# Altium integrated library SparkFun-Connectors.Library.IntLib: 425 symbols (part 11 of 12)
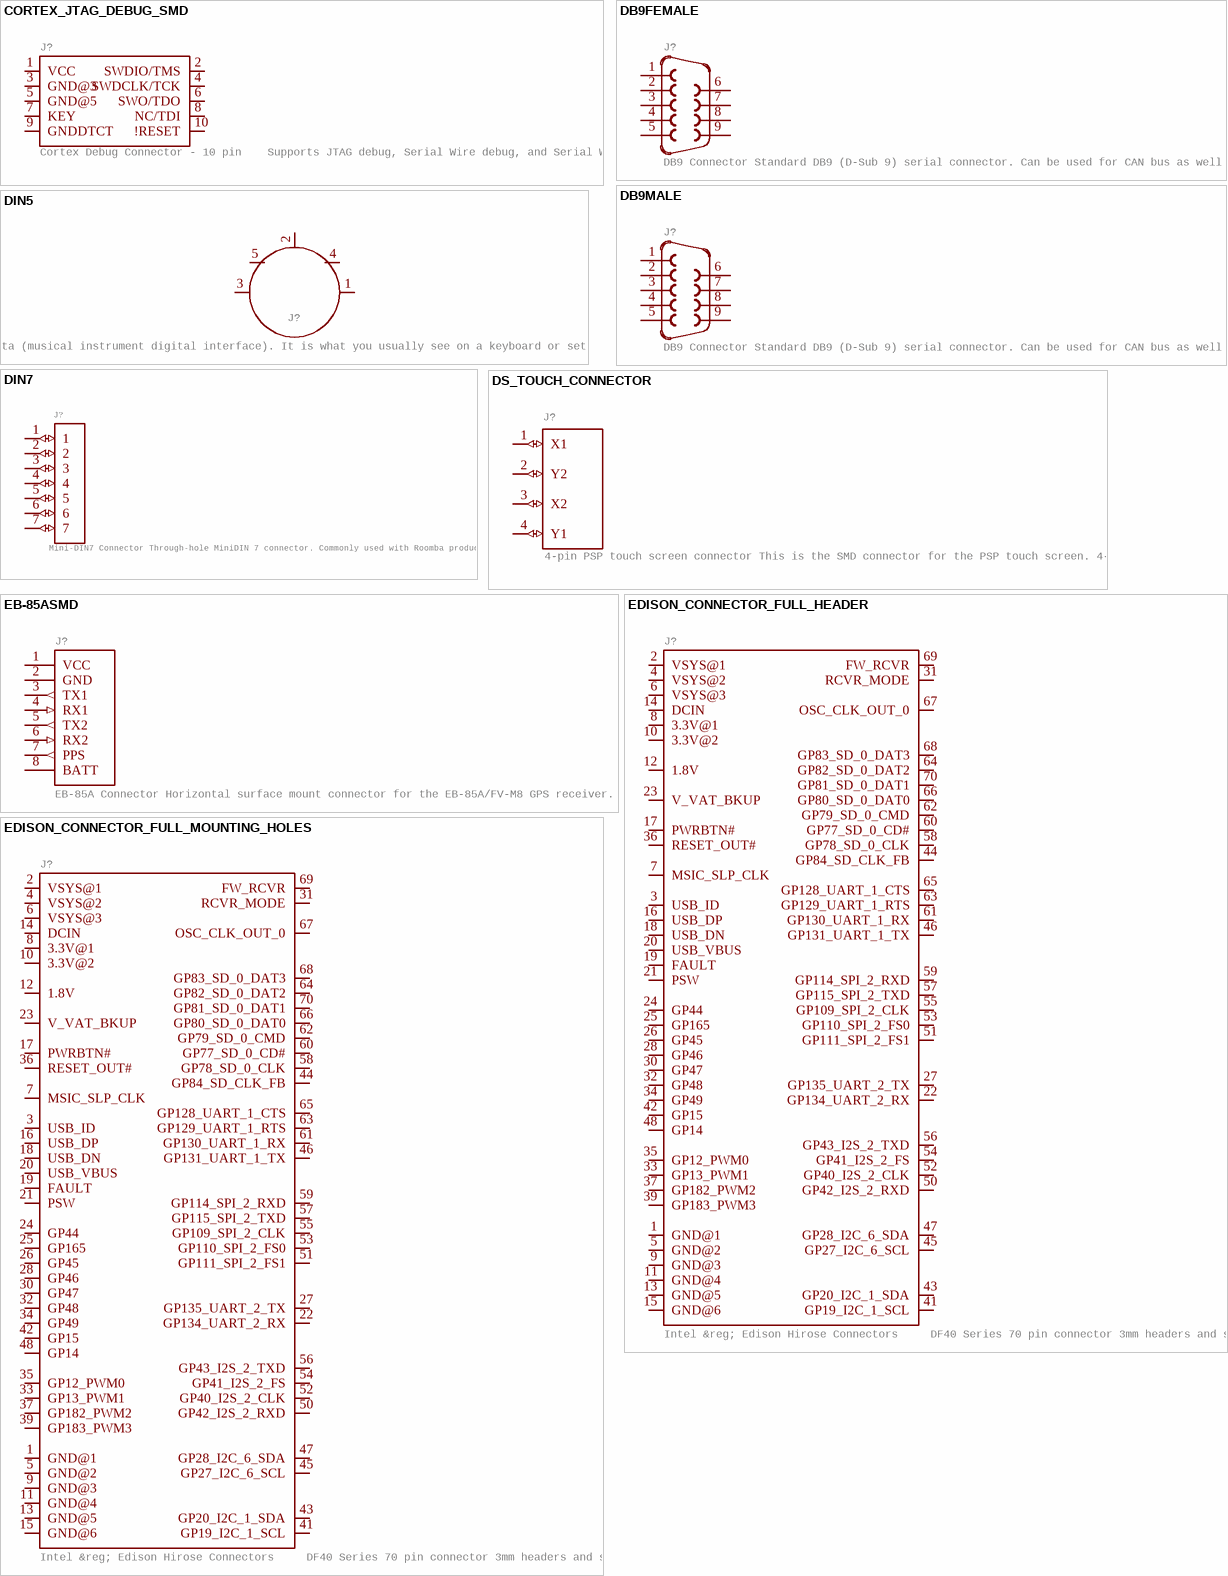
[diagram p29: symbols CORTEX_JTAG_DEBUG_SMD to EDISON_CONNECTOR_FULL_MOUNTING_HOLES]

## EDISON_CONNECTOR_FULL_MOUNTING_HOLES
designator J?, comment Intel &reg; Edison Hirose Connectors     DF40 Series 70 pin connector 3mm headers and sockets used on the SparkFun Edison Blocks.    Edison Daughter package includes layout for the Edison module itself, including mounting holes and antenna area marked.   SparkFun Products: SparkFun ADC Edison Block  SparkFun Power Edison Block  SparkFun Base Edison Block  SparkFun Dual H-Bridge Edison Block  SparkFun microSD Edison Block
GateName_1: G$1; SymbolName_1: EDISON_CONNECTOR; DeviceName: _MOUNTING_HOLES; DeviceSetName: EDISON_CONNECTOR_FULL; LibraryName: SparkFun-Connectors; Package: EDISON_DAUGHTER
footprint EDISON_DAUGHTER
pins: 1 GND@1 (io), 2 VSYS@1 (io), 3 USB_ID (io), 4 VSYS@2 (io), 5 GND@2 (io), 6 VSYS@3 (io), 7 MSIC_SLP_CLK (io), 8 3.3V@1 (io), 9 GND@3 (io), 10 3.3V@2 (io), 11 GND@4 (io), 12 1.8V (io), 13 GND@5 (io), 14 DCIN (io), 15 GND@6 (io), 16 USB_DP (io), 17 PWRBTN# (io), 18 USB_DN (io), 19 FAULT (io), 20 USB_VBUS (io), 21 PSW (io), 22 GP134_UART_2_RX (io), 23 V_VAT_BKUP (io), 24 GP44 (io), 25 GP165 (io), 26 GP45 (io), 27 GP135_UART_2_TX (io), 28 GP46 (io), 30 GP47 (io), 31 RCVR_MODE (io), 32 GP48 (io), 33 GP13_PWM1 (io), 34 GP49 (io), 35 GP12_PWM0 (io), 36 RESET_OUT# (io), 37 GP182_PWM2 (io), 39 GP183_PWM3 (io), 41 GP19_I2C_1_SCL (io), 42 GP15 (io), 43 GP20_I2C_1_SDA (io), 44 GP84_SD_CLK_FB (io), 45 GP27_I2C_6_SCL (io), 46 GP131_UART_1_TX (io), 47 GP28_I2C_6_SDA (io), 48 GP14 (io), 50 GP42_I2S_2_RXD (io), 51 GP111_SPI_2_FS1 (io), 52 GP40_I2S_2_CLK (io), 53 GP110_SPI_2_FS0 (io), 54 GP41_I2S_2_FS (io), 55 GP109_SPI_2_CLK (io), 56 GP43_I2S_2_TXD (io), 57 GP115_SPI_2_TXD (io), 58 GP78_SD_0_CLK (io), 59 GP114_SPI_2_RXD (io), 60 GP77_SD_0_CD# (io), 61 GP130_UART_1_RX (io), 62 GP79_SD_0_CMD (io), 63 GP129_UART_1_RTS (io), 64 GP82_SD_0_DAT2 (io), 65 GP128_UART_1_CTS (io), 66 GP80_SD_0_DAT0 (io), 67 OSC_CLK_OUT_0 (io), 68 GP83_SD_0_DAT3 (io), 69 FW_RCVR (io), 70 GP81_SD_0_DAT1 (io)

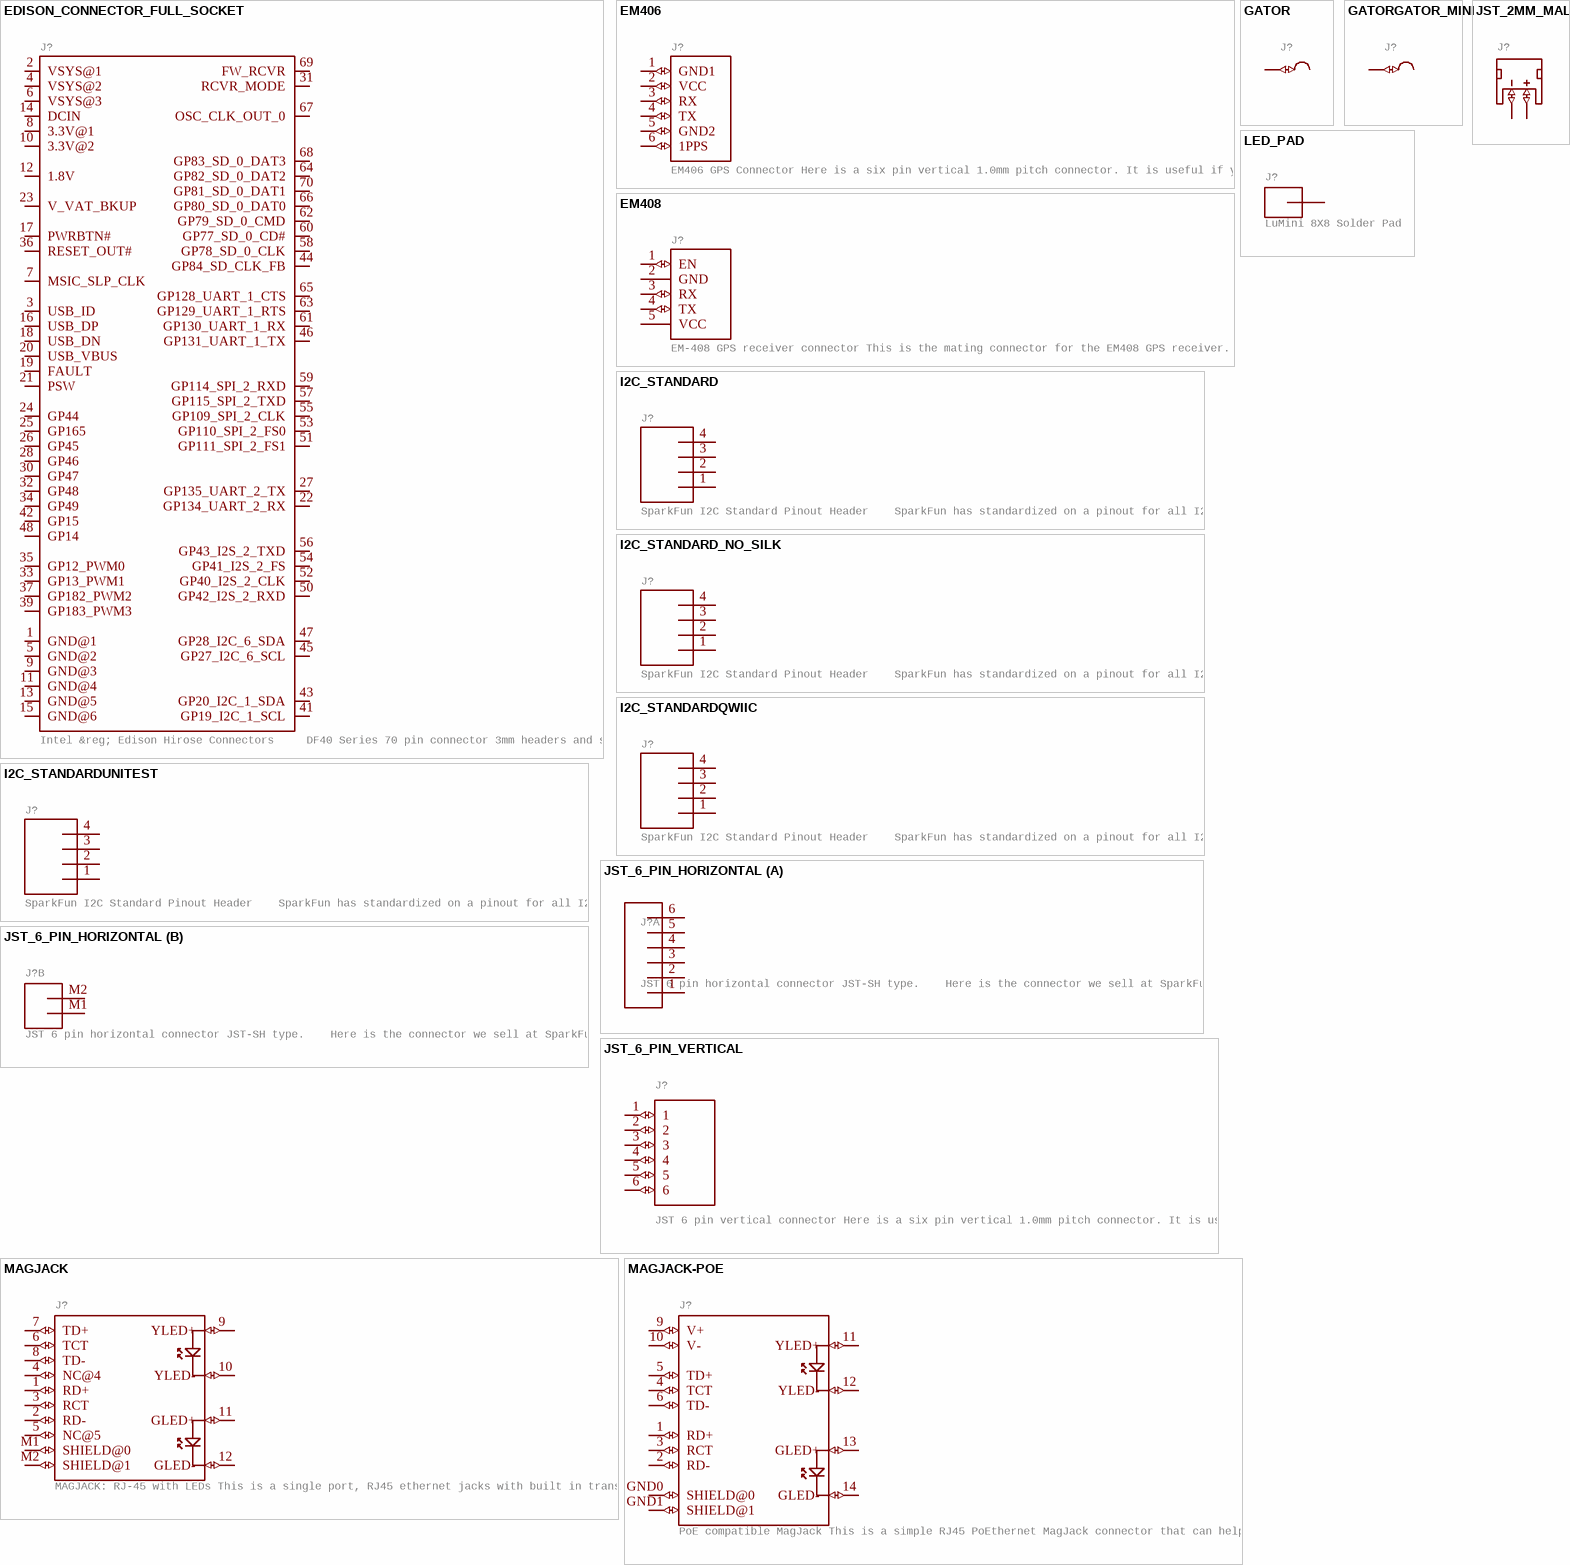
[diagram p14: symbols EDISON_CONNECTOR_FULL_SOCKET to MAGJACK-POE]

## EDISON_CONNECTOR_FULL_SOCKET
designator J?, comment Intel &reg; Edison Hirose Connectors     DF40 Series 70 pin connector 3mm headers and sockets used on the SparkFun Edison Blocks.    Edison Daughter package includes layout for the Edison module itself, including mounting holes and antenna area marked.   SparkFun Products: SparkFun ADC Edison Block  SparkFun Power Edison Block  SparkFun Base Edison Block  SparkFun Dual H-Bridge Edison Block  SparkFun microSD Edison Block
GateName_1: G$1; SymbolName_1: EDISON_CONNECTOR; DeviceName: _SOCKET; DeviceSetName: EDISON_CONNECTOR_FULL; PROD_ID: CONN-12247; LibraryName: SparkFun-Connectors; Package: DF40-XC-(X.X)-70DS-0.4V(51)
footprint DF40-XC-(X.X)-70DS-0.4V(51)
pins: 1 GND@1 (io), 2 VSYS@1 (io), 3 USB_ID (io), 4 VSYS@2 (io), 5 GND@2 (io), 6 VSYS@3 (io), 7 MSIC_SLP_CLK (io), 8 3.3V@1 (io), 9 GND@3 (io), 10 3.3V@2 (io), 11 GND@4 (io), 12 1.8V (io), 13 GND@5 (io), 14 DCIN (io), 15 GND@6 (io), 16 USB_DP (io), 17 PWRBTN# (io), 18 USB_DN (io), 19 FAULT (io), 20 USB_VBUS (io), 21 PSW (io), 22 GP134_UART_2_RX (io), 23 V_VAT_BKUP (io), 24 GP44 (io), 25 GP165 (io), 26 GP45 (io), 27 GP135_UART_2_TX (io), 28 GP46 (io), 30 GP47 (io), 31 RCVR_MODE (io), 32 GP48 (io), 33 GP13_PWM1 (io), 34 GP49 (io), 35 GP12_PWM0 (io), 36 RESET_OUT# (io), 37 GP182_PWM2 (io), 39 GP183_PWM3 (io), 41 GP19_I2C_1_SCL (io), 42 GP15 (io), 43 GP20_I2C_1_SDA (io), 44 GP84_SD_CLK_FB (io), 45 GP27_I2C_6_SCL (io), 46 GP131_UART_1_TX (io), 47 GP28_I2C_6_SDA (io), 48 GP14 (io), 50 GP42_I2S_2_RXD (io), 51 GP111_SPI_2_FS1 (io), 52 GP40_I2S_2_CLK (io), 53 GP110_SPI_2_FS0 (io), 54 GP41_I2S_2_FS (io), 55 GP109_SPI_2_CLK (io), 56 GP43_I2S_2_TXD (io), 57 GP115_SPI_2_TXD (io), 58 GP78_SD_0_CLK (io), 59 GP114_SPI_2_RXD (io), 60 GP77_SD_0_CD# (io), 61 GP130_UART_1_RX (io), 62 GP79_SD_0_CMD (io), 63 GP129_UART_1_RTS (io), 64 GP82_SD_0_DAT2 (io), 65 GP128_UART_1_CTS (io), 66 GP80_SD_0_DAT0 (io), 67 OSC_CLK_OUT_0 (io), 68 GP83_SD_0_DAT3 (io), 69 FW_RCVR (io), 70 GP81_SD_0_DAT1 (io)

## EM406
designator J?, comment EM406 GPS Connector Here is a six pin vertical 1.0mm pitch connector. It is useful if you need something very tiny as a connection. These are not the standard JST type connectors we use on most of our boards, but are actually the much smaller JST-SH type.    Here is the connector we sell at SparkFun: JST SH Vertical 6-Pin Connector - SMD (GPS-00579)  Datasheet      It was used on these SparkFun products: SparkFun GPS Breakout (BOB-11818)  SparkFun Weather Shield (DEV-12081)  And many, many other GPS related products.
GateName_1: G$1; PROD_ID: CONN-08249; SymbolName_1: EM406; LibraryName: SparkFun-Connectors; DeviceSetName: EM406; Package: 1X06-1MM; SF_ID: GPS-00579
footprint 1X06-1MM
pins: 1 GND1 (io), 2 VCC (io), 3 RX (io), 4 TX (io), 5 GND2 (io), 6 1PPS (io)

## EM408
designator J?, comment EM-408 GPS receiver connector This is the mating connector for the EM408 GPS receiver. The EM408 connects to the board via a cable. Note, this connector footprint does not include the outline of the receiver.    Here is the connector we sell at SparkFun: Connector Vertical SMD for EM408 (GPS-08288)  Datasheet      It was also used on this SparkFun product:  This connector is not on any currently live products, however it has been used on previously reitred products, so the package is proven.       Special note: You should include the "EM408_Outline" device in your schematic if you are to use the EM408 in your design.
GateName_1: G$1; PROD_ID: CONN-08528; SymbolName_1: EM408; LibraryName: SparkFun-Connectors; DeviceSetName: EM408; Package: 1X05_1MM; SF_ID: GPS-08288
footprint 1X05_1MM
pins: 1 EN (io), 2 GND (power), 3 RX (io), 4 TX (io), 5 VCC (power)

## GATOR
designator J?
GateName_1: G$1; SymbolName_1: MICRO_BIT_GATOR_CLIP; DeviceSetName: GATOR; LibraryName: SparkFun-Connectors; Package: GATOR
footprint GATOR
pins: P$1,2 P$1 (io)

## GATORGATOR_MINI
designator J?
GateName_1: G$1; SymbolName_1: MICRO_BIT_GATOR_CLIP; DeviceName: GATOR_MINI; DeviceSetName: GATOR; LibraryName: SparkFun-Connectors; Package: GATOR_MINI
footprint GATOR_MINI
pins: P$2 P$1 (io)

## I2C_STANDARD
designator J?, comment SparkFun I2C Standard Pinout Header    SparkFun has standardized on a pinout for all I2C based sensor breakouts.  This pinout allows I2C boards to be plugged directly into the headers on Arduino Uno compatible boards, and to be daisy chained easily.   Example SparkFun Products: SparkFun Atmospheric Sensor Breakout - BME280  SparkFun Altitude/Pressure Sensor Breakout - MPL3115A2  SparkFun TOF Range Finder Sensor - VL6180
GateName_1: G$1; SymbolName_1: I2C_STANDARD; LibraryName: SparkFun-Connectors; DeviceSetName: I2C_STANDARD; Package: 1X04
footprint 1X04
pins: 1 (power), 2 (power), 3, 4

## I2C_STANDARD_NO_SILK
designator J?, comment SparkFun I2C Standard Pinout Header    SparkFun has standardized on a pinout for all I2C based sensor breakouts.  This pinout allows I2C boards to be plugged directly into the headers on Arduino Uno compatible boards, and to be daisy chained easily.   Example SparkFun Products: SparkFun Atmospheric Sensor Breakout - BME280  SparkFun Altitude/Pressure Sensor Breakout - MPL3115A2  SparkFun TOF Range Finder Sensor - VL6180
GateName_1: G$1; SymbolName_1: I2C_STANDARD; DeviceName: _NO_SILK; LibraryName: SparkFun-Connectors; DeviceSetName: I2C_STANDARD; Package: 1X04_NO_SILK
footprint 1X04_NO_SILK
pins: 1 (power), 2 (power), 3, 4

## I2C_STANDARDQWIIC
designator J?, comment SparkFun I2C Standard Pinout Header    SparkFun has standardized on a pinout for all I2C based sensor breakouts.  This pinout allows I2C boards to be plugged directly into the headers on Arduino Uno compatible boards, and to be daisy chained easily.   Example SparkFun Products: SparkFun Atmospheric Sensor Breakout - BME280  SparkFun Altitude/Pressure Sensor Breakout - MPL3115A2  SparkFun TOF Range Finder Sensor - VL6180
GateName_1: G$1; SymbolName_1: I2C_STANDARD; DeviceName: QWIIC; PROD_ID: CONN-13694; LibraryName: SparkFun-Connectors; DeviceSetName: I2C_STANDARD; Package: JST04_1MM_RA
footprint JST04_1MM_RA
pins: 1 (power), 2 (power), 3, 4

## I2C_STANDARDUNITEST
designator J?, comment SparkFun I2C Standard Pinout Header    SparkFun has standardized on a pinout for all I2C based sensor breakouts.  This pinout allows I2C boards to be plugged directly into the headers on Arduino Uno compatible boards, and to be daisy chained easily.   Example SparkFun Products: SparkFun Atmospheric Sensor Breakout - BME280  SparkFun Altitude/Pressure Sensor Breakout - MPL3115A2  SparkFun TOF Range Finder Sensor - VL6180
GateName_1: G$1; SymbolName_1: I2C_STANDARD; DeviceName: UNITEST; LibraryName: SparkFun-Connectors; DeviceSetName: I2C_STANDARD; Package: 1X04_UNITEST
footprint 1X04_UNITEST
pins: 1 (power), 2 (power), 3, 4

## JST_2MM_MALE
designator J?, comment JST 2MM MALE RA CONNECTOR Two pin, compact surface mount connector. Commonly used as a battery input connection point. We really like the solid locking feeling and high current rating on these small connectors. We use these all the time as battery connectors. Mates to single-cell LiPo batteries.    Here is the connector we sell at SparkFun: JST Right Angle Connector - White (PRT-08612)  Datasheet      It was used on these SparkFun products: SparkFun MOSFET Power Controller (PRT-11214)  SparkFun Battery Babysitter - LiPo Battery Manager (PRT-13777)  And many, many others that required a lipo battery connection.  (value not drawn)
GateName_1: G$1; SymbolName_1: JST_2MM_MALE; PROD_ID: CONN-11443; LibraryName: SparkFun-Connectors; DeviceSetName: JST_2MM_MALE; Package: JST-2-SMD; SF_ID: PRT-08612
footprint JST-2-SMD
pins: 1 - (io), 2 + (io), NC1 PAD1 (io), NC2 PAD2 (io)

## JST_6_PIN_HORIZONTAL
designator J?, comment JST 6 pin horizontal connector JST-SH type.    Here is the connector we sell at SparkFun: name (XXX-00000)  Datasheet      It was used on these SparkFun products: name (XXX-00000)  name (XXX-00000)
GateName_1: A; SymbolName_1: CONN_06; GateName_2: B; SymbolName_2: CONN_02; DeviceSetName: JST_6_PIN_HORIZONTAL; LibraryName: SparkFun-Connectors; Package: JST-6-SMD-HORI-1.0MM; PROD_ID: XXX-00000
footprint JST-6-SMD-HORI-1.0MM
part A pins: 1, 2, 3, 4, 5, 6
part B pins: M1 1, M2 2

## JST_6_PIN_VERTICAL
designator J?, comment JST 6 pin vertical connector Here is a six pin vertical 1.0mm pitch connector. It is useful if you need something very tiny as a connection. These are not the standard JST type connectors we use on most of our boards, but are actually the much smaller JST-SH type.    Here is the connector we sell at SparkFun: JST SH Vertical 6-Pin Connector - SMD (GPS-00579)  Datasheet      It was used on these SparkFun products: SparkFun GPS Breakout (BOB-11818)  SparkFun Weather Shield (DEV-12081)  And many, many other GPS related products.
GateName_1: G$1; SymbolName_1: JST_6_1MM_VERT; DeviceSetName: JST_6_PIN_VERTICAL; PROD_ID: CONN-08249; LibraryName: SparkFun-Connectors; Package: JST-6-SMD-VERT-1.0MM; SF_ID: GPS-00579
footprint JST-6-SMD-VERT-1.0MM
pins: 1 (io), 2 (io), 3 (io), 4 (io), 5 (io), 6 (io)

## LED_PAD
designator J?, comment LuMini 8X8 Solder Pad
GateName_1: G$1; SymbolName_1: CONN_01; DeviceSetName: LED_PAD; LibraryName: SparkFun-Connectors; Package: CIRCULARPAD
footprint CIRCULARPAD
pins: P$1,2 1

## MAGJACK
designator J?, comment MAGJACK: RJ-45 with LEDs This is a single port, RJ45 ethernet jacks with built in transformer (magnetics), status LEDs, and shielding.    Here is the connector we sell at SparkFun: RJ45 Ethernet MagJack-Compatible (PRT-08534)  Datasheet      It is used on this SparkFun product: SparkFun RJ45 MagJack Breakout (BOB-13021)
GateName_1: G$1; PROD_ID: CONN-09556; SymbolName_1: MAGJACK; LibraryName: SparkFun-Connectors; DeviceSetName: MAGJACK; Package: MAGJACK; SF_ID: PRT-08534
footprint MAGJACK
pins: 1 RD+ (io), 2 RD- (io), 3 RCT (io), 4 NC@4 (io), 5 NC@5 (io), 6 TCT (io), 7 TD+ (io), 8 TD- (io), 9 YLED+ (io), 10 YLED- (io), 11 GLED+ (io), 12 GLED- (io), M1 SHIELD@0 (io), M2 SHIELD@1 (io)

## MAGJACK-POE
designator J?, comment PoE compatible MagJack This is a simple RJ45 PoEthernet MagJack connector that can help connect you to the Internet with the ability to provide power.    Here is the connector we sell at SparkFun: RJ45 PoE MagJack (PRT-13606)       Note:  This connector is not on any currently live SparkFun products, however it has been used on previously reitred products, so the package is proven.
GateName_1: G$1; SymbolName_1: MAGJACK-POE; PROD_ID: CONN-10659; LibraryName: SparkFun-Connectors; DeviceSetName: MAGJACK-POE; Package: MAGJACK-POE; SF_ID: PRT-13606
footprint MAGJACK-POE
pins: 1 RD+ (io), 2 RD- (io), 3 RCT (io), 4 TCT (io), 5 TD+ (io), 6 TD- (io), 9 V+ (io), 10 V- (io), 11 YLED+ (io), 12 YLED- (io), 13 GLED+ (io), 14 GLED- (io), GND0 SHIELD@0 (io), GND1 SHIELD@1 (io)

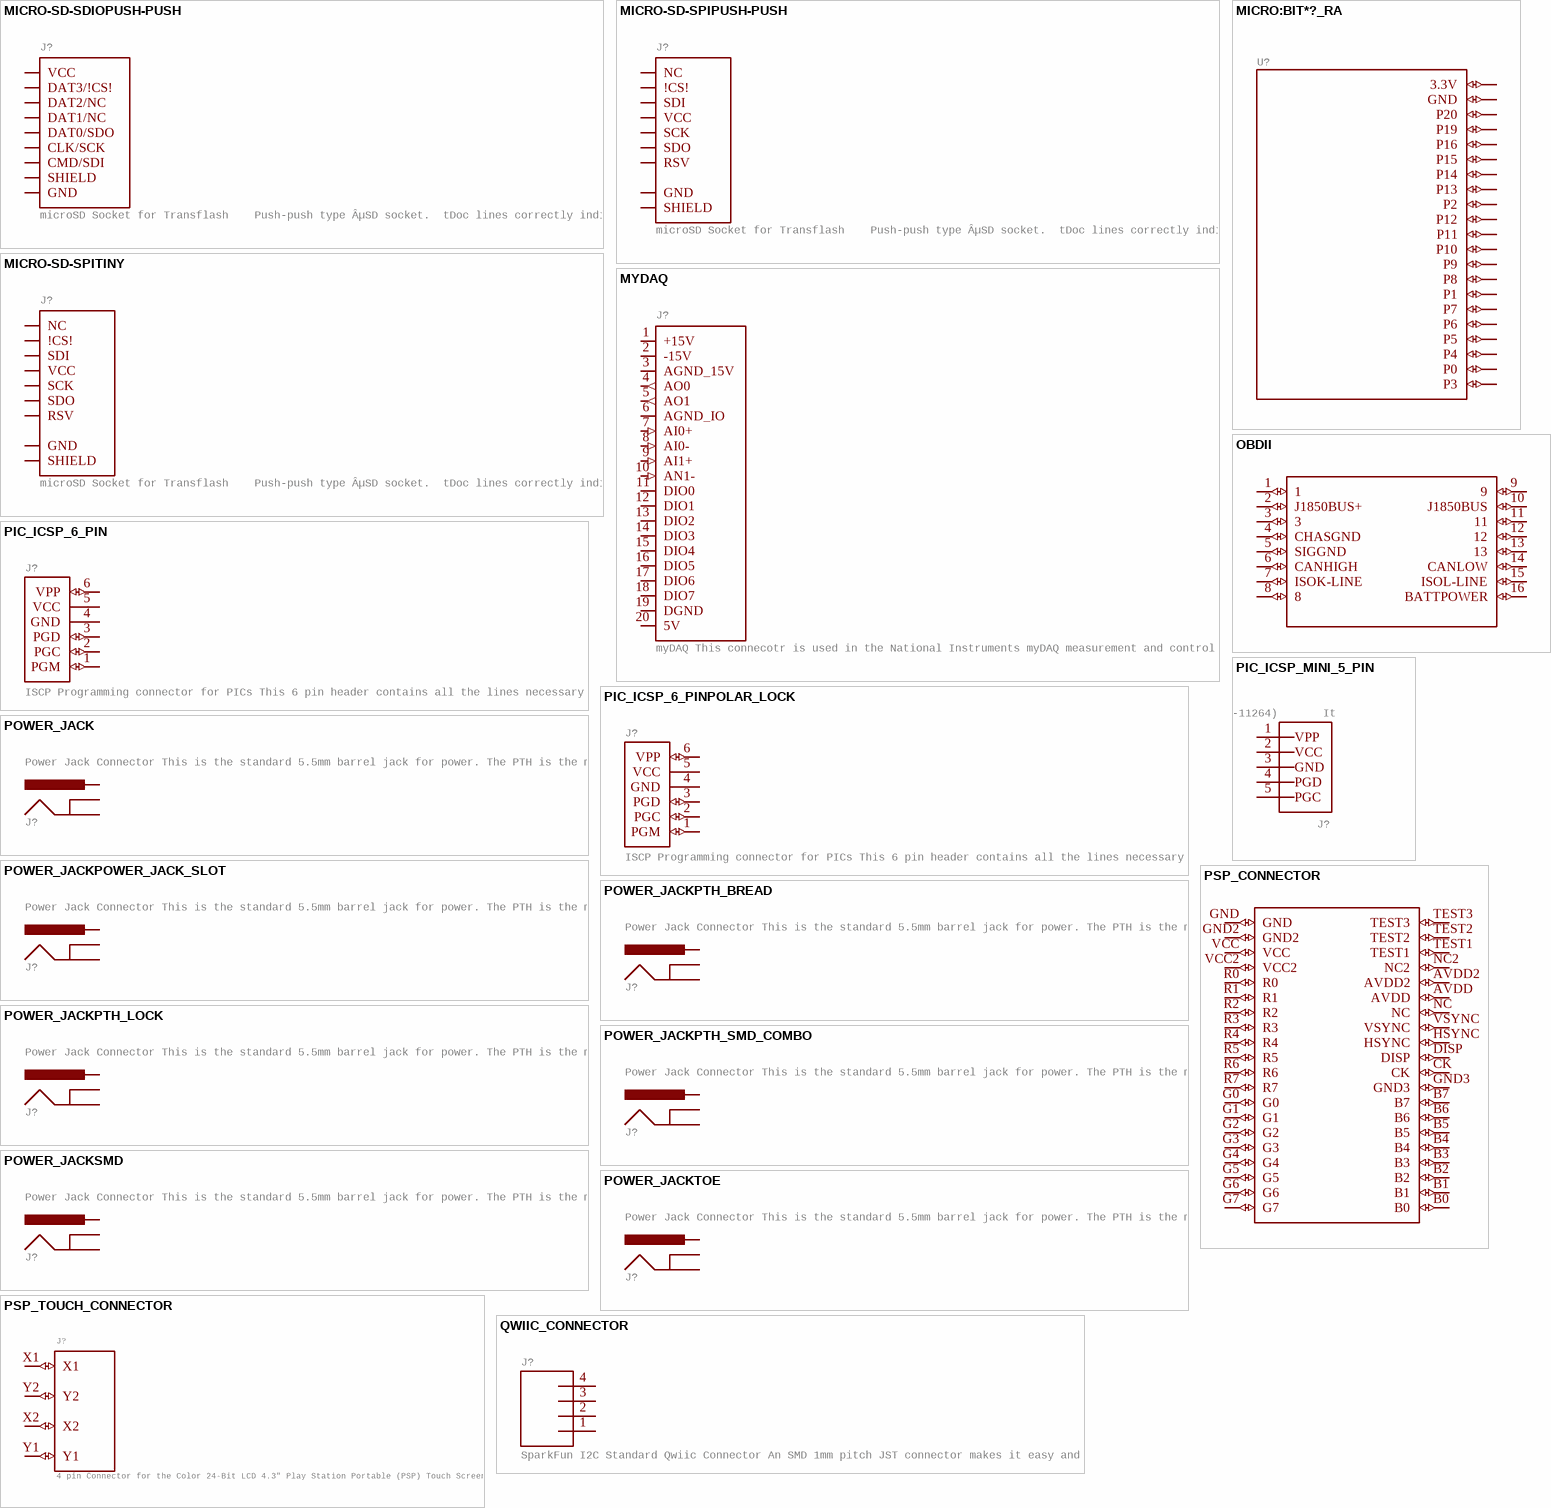
[diagram p15: symbols MICRO-SD-SDIOPUSH-PUSH to QWIIC_CONNECTOR]

## MICRO-SD-SDIOPUSH-PUSH
designator J?, comment microSD Socket for Transflash    Push-push type ÂµSD socket.  tDoc lines correctly indicate media card edge positions when inserting (unlocked, locked, depressed).   NOTE: CD1 and CD2 are connected internally, and the default detect state of the socket is detect pin to ground.   SparkFun Products: WAV Trigger  CAN-Bus Shield  SparkFun Level Shifing microSD Breakout
GateName_1: G$1; SymbolName_1: MICROSD-SDIO; DeviceSetName: MICRO-SD-SDIO; PROD_ID: CONN-07820; DeviceName: PUSH-PUSH; LibraryName: SparkFun-Connectors; Package: MICRO-SD-SOCKET
footprint MICRO-SD-SOCKET
pins: CD1 SHIELD (io), CS/DAT3 DAT3/!CS! (io), DAT1 DAT1/NC (io), DAT2 DAT2/NC (io), DI/CMD CMD/SDI (io), DO/DAT0 DAT0/SDO (io), GND,GND1,GND3 GND (io), SCLK CLK/SCK (io), VCC (io)

## MICRO-SD-SPIPUSH-PUSH
designator J?, comment microSD Socket for Transflash    Push-push type ÂµSD socket.  tDoc lines correctly indicate media card edge positions when inserting (unlocked, locked, depressed).   NOTE: CD1 and CD2 are connected internally, and the default detect state of the socket is detect pin to ground.   SparkFun Products: WAV Trigger  CAN-Bus Shield  SparkFun Level Shifing microSD Breakout
GateName_1: J1; DeviceSetName: MICRO-SD-SPI; PROD_ID: CONN-07820; SymbolName_1: MICROSD; DeviceName: PUSH-PUSH; LibraryName: SparkFun-Connectors; Package: MICRO-SD-SOCKET
footprint MICRO-SD-SOCKET
pins: CD1 SHIELD (io), CS/DAT3 !CS! (io), DAT1 NC (io), DAT2 RSV (io), DI/CMD SDI (io), DO/DAT0 SDO (io), GND (io), SCLK SCK (io), VCC (io)

## MICRO-SD-SPITINY
designator J?, comment microSD Socket for Transflash    Push-push type ÂµSD socket.  tDoc lines correctly indicate media card edge positions when inserting (unlocked, locked, depressed).   NOTE: CD1 and CD2 are connected internally, and the default detect state of the socket is detect pin to ground.   SparkFun Products: WAV Trigger  CAN-Bus Shield  SparkFun Level Shifing microSD Breakout
GateName_1: J1; DeviceName: TINY; DeviceSetName: MICRO-SD-SPI; PROD_ID: CONN-13500; SymbolName_1: MICROSD; LibraryName: SparkFun-Connectors; Package: MICROSD_TINY
footprint MICROSD_TINY
pins: 1,8 RSV (io), 2 !CS! (io), 3 SDI (io), 4 VCC (io), 5 SCK (io), 6 GND (io), 7 SDO (io), 9 NC (io), GND1-6 SHIELD (io)

## MICRO:BIT*?_RA
designator U?
GateName_1: G$1; SymbolName_1: MICRO:BIT; DeviceName: _RA; DeviceSetName: MICRO:BIT*?; PROD_ID: CONN-14679; LibraryName: SparkFun-Connectors; Package: MICRO:BIT-RA_SMD
footprint MICRO:BIT-RA_SMD
pins: P$1 P3 (io), P$2-5 P0 (io), P$6 P4 (io), P$7 P5 (io), P$8 P6 (io), P$9 P7 (io), P$10-13 P1 (io), P$14 P8 (io), P$15 P9 (io), P$16 P10 (io), P$17 P11 (io), P$18 P12 (io), P$19-22 P2 (io), P$23 P13 (io), P$24 P14 (io), P$25 P15 (io), P$26 P16 (io), P$27-32 3.3V (io), P$33 P19 (io), P$34 P20 (io), P$35-40 GND (io)

## MYDAQ
designator J?, comment myDAQ This connecotr is used in the National Instruments myDAQ measurement and control tool ecosystem. Learn more at the myDAQ website. The connector is a 20pin 3.81mm spaced Female Right Angle Terminal Block (PTH).    Sorry, we do not sell the connector as an individual part at SparkFun, howere here is a link to the datasheet: Datasheet      It is used on this SparkFun product: SparkFun myDAQ Protoboard Kit (DEV-10705)
GateName_1: G$1; SymbolName_1: MYDAQ_CONNECTOR; PROD_ID: CONN-10450; LibraryName: SparkFun-Connectors; DeviceSetName: MYDAQ; Package: 3.81MM_TERMINAL_BLOCK_FEMALE_LOCKING
footprint 3.81MM_TERMINAL_BLOCK_FEMALE_LOCKING
pins: 1 +15V (power), 2 -15V (power), 3 AGND_15V (power), 4 AO0 (out), 5 AO1 (out), 6 AGND_IO (power), 7 AI0+ (in), 8 AI0- (in), 9 AI1+ (in), 10 AN1- (in), 11 DIO0 (io), 12 DIO1 (io), 13 DIO2 (io), 14 DIO3 (io), 15 DIO4 (io), 16 DIO5 (io), 17 DIO6 (io), 18 DIO7 (io), 19 DGND (power), 20 5V (power)

## OBDII
designator J?, comment OBD-II Connector OBDII is an on board diagnostics standard that is used on a large variety of cars.    Here is the connector we sell at SparkFun: OBD-II connector (DEV-09911)  Info and Pinout (sorry, no datasheet)       We do not use this connector on any active designs, however, if you're looking for OBDII tech, please check out these: SparkFun OBD related products  (value not drawn)
GateName_1: G$1; SymbolName_1: OBDII; LibraryName: SparkFun-Connectors; DeviceSetName: OBDII; Package: OBDII; SF_ID: DEV-09911
footprint OBDII
pins: 1 (io), 2 J1850BUS+ (io), 3 (io), 4 CHASGND (io), 5 SIGGND (io), 6 CANHIGH (io), 7 ISOK-LINE (io), 8 (io), 9 (io), 10 J1850BUS (io), 11 (io), 12 (io), 13 (io), 14 CANLOW (io), 15 ISOL-LINE (io), 16 BATTPOWER (io)

## PIC_ICSP_6_PIN
designator J?, comment ISCP Programming connector for PICs This 6 pin header contains all the lines necessary for programming most PIC microcontrollers.    Here is the connector we sell at SparkFun: Polarized Connectors - Header (6-Pin) (PRT-08094)       It is used on this SparkFun product: SparkFun UDB5 - PIC UAV Development Board (DEV-11703)       Also, if you need a nice PIC programmer, please check these out: MPLAB PICkit 3 (PGM-09973)
GateName_1: G$1; SymbolName_1: ICSP-PIC; DeviceSetName: PIC_ICSP_6_PIN; PROD_ID: CONN-08046; LibraryName: SparkFun-Connectors; Package: MOLEX-1X6; SF_ID: PRT-08094
footprint MOLEX-1X6
pins: 1 PGM (io), 2 PGC (io), 3 PGD (io), 4 GND (power), 5 VCC (power), 6 VPP (io)

## PIC_ICSP_6_PINPOLAR_LOCK
designator J?, comment ISCP Programming connector for PICs This 6 pin header contains all the lines necessary for programming most PIC microcontrollers.    Here is the connector we sell at SparkFun: Polarized Connectors - Header (6-Pin) (PRT-08094)       It is used on this SparkFun product: SparkFun UDB5 - PIC UAV Development Board (DEV-11703)       Also, if you need a nice PIC programmer, please check these out: MPLAB PICkit 3 (PGM-09973)
GateName_1: G$1; SymbolName_1: ICSP-PIC; DeviceName: POLAR_LOCK; DeviceSetName: PIC_ICSP_6_PIN; LibraryName: SparkFun-Connectors; Package: MOLEX-1X6_LOCK
footprint MOLEX-1X6_LOCK
pins: 1 PGM (io), 2 PGC (io), 3 PGD (io), 4 GND (power), 5 VCC (power), 6 VPP (io)

## PIC_ICSP_MINI_5_PIN
designator J?, comment PIC-ICSP-MiniMiniature 5-pin connection for temporary programming of PICs. Use this device in your design to save space.  Miniature ISCP Programming connector for PICs This 5 pin header contains all the lines necessary for programming most PIC microcontrollers. Use this device in your design to save space.    Here is the connector we sell at SparkFun: 5-Pin Mini ICSP Connector (PRT-11264)       It is used on these SparkFun products: USB Bit Whacker - 18F2553 Development Board (DEV-00762)  SparkFun Serial Enabled LCD Backpack (LCD-00258)       Also, if you need a nice PIC programmer, please check these out: MPLAB PICkit 3 (PGM-09973)
GateName_1: G$1; SymbolName_1: PIC-ISCP-MINI; DeviceSetName: PIC_ICSP_MINI_5_PIN; PROD_ID: CONN-08314; LibraryName: SparkFun-Connectors; Package: PIC_ICSP_MINI_5_PIN; SF_ID: PRT-11264
footprint PIC_ICSP_MINI_5_PIN
pins: 1 VPP, 2 VCC, 3 GND, 4 PGD, 5 PGC

## POWER_JACK
designator J?, comment Power Jack Connector This is the standard 5.5mm barrel jack for power. The PTH is the most common, proven, reliable, footprint. The Slot footprint only works if the mill layer is transmitted to the PCB fab house so be warned.    Here are the connectors we sell at SparkFun: DC Barrel Power Jack/Connector (PRT-00119)  DC Barrel Power Jack/Connector (SMD) (PRT-12748)  DC Barrel Jack Adapter - Breadboard Compatible (PRT-10811)       It is used on this SparkFun product (and many, many others): SparkFun RedBoard - Programmed with Arduino (DEV-12757)       Also, if you need a mating power supply or connector, please check these out: Wall Adapter Power Supply - 9VDC 650mA (TOL-00298)  DC Barrel Jack Adapter - Male (PRT-10287)
GateName_1: G$1; DeviceSetName: POWER_JACK; PROD_ID: CONN-08197; SymbolName_1: POWERJACK; LibraryName: SparkFun-Connectors; Package: POWER_JACK_PTH
footprint POWER_JACK_PTH
pins: GND (io), GNDBREAK (io), PWR (io)

## POWER_JACKPOWER_JACK_SLOT
designator J?, comment Power Jack Connector This is the standard 5.5mm barrel jack for power. The PTH is the most common, proven, reliable, footprint. The Slot footprint only works if the mill layer is transmitted to the PCB fab house so be warned.    Here are the connectors we sell at SparkFun: DC Barrel Power Jack/Connector (PRT-00119)  DC Barrel Power Jack/Connector (SMD) (PRT-12748)  DC Barrel Jack Adapter - Breadboard Compatible (PRT-10811)       It is used on this SparkFun product (and many, many others): SparkFun RedBoard - Programmed with Arduino (DEV-12757)       Also, if you need a mating power supply or connector, please check these out: Wall Adapter Power Supply - 9VDC 650mA (TOL-00298)  DC Barrel Jack Adapter - Male (PRT-10287)
GateName_1: G$1; DeviceName: POWER_JACK_SLOT; DeviceSetName: POWER_JACK; SymbolName_1: POWERJACK; LibraryName: SparkFun-Connectors; Package: POWER_JACK_PTH_SLOT
footprint POWER_JACK_PTH_SLOT
pins: GND (io), GNDBREAK (io), PWR (io)

## POWER_JACKPTH_BREAD
designator J?, comment Power Jack Connector This is the standard 5.5mm barrel jack for power. The PTH is the most common, proven, reliable, footprint. The Slot footprint only works if the mill layer is transmitted to the PCB fab house so be warned.    Here are the connectors we sell at SparkFun: DC Barrel Power Jack/Connector (PRT-00119)  DC Barrel Power Jack/Connector (SMD) (PRT-12748)  DC Barrel Jack Adapter - Breadboard Compatible (PRT-10811)       It is used on this SparkFun product (and many, many others): SparkFun RedBoard - Programmed with Arduino (DEV-12757)       Also, if you need a mating power supply or connector, please check these out: Wall Adapter Power Supply - 9VDC 650mA (TOL-00298)  DC Barrel Jack Adapter - Male (PRT-10287)
GateName_1: G$1; DeviceName: PTH_BREAD; DeviceSetName: POWER_JACK; PROD_ID: COMP-13253; SymbolName_1: POWERJACK; LibraryName: SparkFun-Connectors; Package: POWER_JACK_PTH_BREAD
footprint POWER_JACK_PTH_BREAD
pins: GND (io), GNDBREAK (io), PWR (io)

## POWER_JACKPTH_LOCK
designator J?, comment Power Jack Connector This is the standard 5.5mm barrel jack for power. The PTH is the most common, proven, reliable, footprint. The Slot footprint only works if the mill layer is transmitted to the PCB fab house so be warned.    Here are the connectors we sell at SparkFun: DC Barrel Power Jack/Connector (PRT-00119)  DC Barrel Power Jack/Connector (SMD) (PRT-12748)  DC Barrel Jack Adapter - Breadboard Compatible (PRT-10811)       It is used on this SparkFun product (and many, many others): SparkFun RedBoard - Programmed with Arduino (DEV-12757)       Also, if you need a mating power supply or connector, please check these out: Wall Adapter Power Supply - 9VDC 650mA (TOL-00298)  DC Barrel Jack Adapter - Male (PRT-10287)
GateName_1: G$1; DeviceName: PTH_LOCK; DeviceSetName: POWER_JACK; PROD_ID: CONN-08197; SymbolName_1: POWERJACK; LibraryName: SparkFun-Connectors; Package: POWER_JACK_PTH_LOCK; SF_ID: PRT-00119
footprint POWER_JACK_PTH_LOCK
pins: GND (io), GNDBREAK (io), PWR (io)

## POWER_JACKPTH_SMD_COMBO
designator J?, comment Power Jack Connector This is the standard 5.5mm barrel jack for power. The PTH is the most common, proven, reliable, footprint. The Slot footprint only works if the mill layer is transmitted to the PCB fab house so be warned.    Here are the connectors we sell at SparkFun: DC Barrel Power Jack/Connector (PRT-00119)  DC Barrel Power Jack/Connector (SMD) (PRT-12748)  DC Barrel Jack Adapter - Breadboard Compatible (PRT-10811)       It is used on this SparkFun product (and many, many others): SparkFun RedBoard - Programmed with Arduino (DEV-12757)       Also, if you need a mating power supply or connector, please check these out: Wall Adapter Power Supply - 9VDC 650mA (TOL-00298)  DC Barrel Jack Adapter - Male (PRT-10287)
GateName_1: G$1; DeviceName: PTH_SMD_COMBO; DeviceSetName: POWER_JACK; SymbolName_1: POWERJACK; LibraryName: SparkFun-Connectors; Package: POWER_JACK_COMBO
footprint POWER_JACK_COMBO
pins: GND GNDBREAK (io), GND@1 GND (io), POWER PWR (io)

## POWER_JACKSMD
designator J?, comment Power Jack Connector This is the standard 5.5mm barrel jack for power. The PTH is the most common, proven, reliable, footprint. The Slot footprint only works if the mill layer is transmitted to the PCB fab house so be warned.    Here are the connectors we sell at SparkFun: DC Barrel Power Jack/Connector (PRT-00119)  DC Barrel Power Jack/Connector (SMD) (PRT-12748)  DC Barrel Jack Adapter - Breadboard Compatible (PRT-10811)       It is used on this SparkFun product (and many, many others): SparkFun RedBoard - Programmed with Arduino (DEV-12757)       Also, if you need a mating power supply or connector, please check these out: Wall Adapter Power Supply - 9VDC 650mA (TOL-00298)  DC Barrel Jack Adapter - Male (PRT-10287)
GateName_1: G$1; DeviceSetName: POWER_JACK; PROD_ID: CONN-08106; SymbolName_1: POWERJACK; DeviceName: SMD; LibraryName: SparkFun-Connectors; Package: POWER_JACK_SMD; SF_ID: PRT-12748
footprint POWER_JACK_SMD
pins: GND GNDBREAK (io), P$4 GND (io), VIN0 PWR (io)

## POWER_JACKTOE
designator J?, comment Power Jack Connector This is the standard 5.5mm barrel jack for power. The PTH is the most common, proven, reliable, footprint. The Slot footprint only works if the mill layer is transmitted to the PCB fab house so be warned.    Here are the connectors we sell at SparkFun: DC Barrel Power Jack/Connector (PRT-00119)  DC Barrel Power Jack/Connector (SMD) (PRT-12748)  DC Barrel Jack Adapter - Breadboard Compatible (PRT-10811)       It is used on this SparkFun product (and many, many others): SparkFun RedBoard - Programmed with Arduino (DEV-12757)       Also, if you need a mating power supply or connector, please check these out: Wall Adapter Power Supply - 9VDC 650mA (TOL-00298)  DC Barrel Jack Adapter - Male (PRT-10287)
GateName_1: G$1; DeviceName: TOE; DeviceSetName: POWER_JACK; PROD_ID: CONN-08106; SymbolName_1: POWERJACK; LibraryName: SparkFun-Connectors; Package: POWER_JACK_SMD_OVERPASTE_TOE; SF_ID: PRT-12748
footprint POWER_JACK_SMD_OVERPASTE_TOE
pins: GND GNDBREAK (io), P$4 GND (io), VIN0 PWR (io)

## PSP_CONNECTOR
designator J?, comment Connector for the PlayStation Portable (PSP) screen ribbon cable We no longer sell the screens, however we do still sell the connector.    Here is the connector we sell at SparkFun: Color 24-Bit LCD 4.3" PSP Connector (LCD-08355)  Datasheet  (value not drawn)
GateName_1: G$1; SymbolName_1: PSP_CONNECTOR; LibraryName: SparkFun-Connectors; DeviceSetName: PSP_CONNECTOR; Package: PSP_CONNECTOR; SF_ID: LCD-08355
footprint PSP_CONNECTOR
pins: AVDD (io), AVDD2 (io), B0 (io), B1 (io), B2 (io), B3 (io), B4 (io), B5 (io), B6 (io), B7 (io), CK (io), DISP (io), G0 (io), G1 (io), G2 (io), G3 (io), G4 (io), G5 (io), G6 (io), G7 (io), GND (io), GND2 (io), GND3 (io), HSYNC (io), NC (io), NC2 (io), R0 (io), R1 (io), R2 (io), R3 (io), R4 (io), R5 (io), R6 (io), R7 (io), TEST1 (io), TEST2 (io), TEST3 (io), VCC (io), VCC2 (io), VSYNC (io)

## PSP_TOUCH_CONNECTOR
designator J?, comment 4 pin Connector for the Color 24-Bit LCD 4.3" Play Station Portable (PSP) Touch Screen We no longer sell the screens, however we do still sell the connector.    Here is the connector we sell at SparkFun: Color 24-Bit LCD 4.3" PSP Touch Screen Connector (LCD-09104)  Datasheet
GateName_1: G$1; SymbolName_1: PSP_TOUCH_CONNECTOR; PROD_ID: CONN-09139; LibraryName: SparkFun-Connectors; DeviceSetName: PSP_TOUCH_CONNECTOR; Package: PSP_TOUCH_CONNECTOR; SF_ID: LCD-09104
footprint PSP_TOUCH_CONNECTOR
pins: X1 (io), X2 (io), Y1 (io), Y2 (io)

## QWIIC_CONNECTOR
designator J?, comment SparkFun I2C Standard Qwiic Connector An SMD 1mm pitch JST connector makes it easy and quick (get it? Qwiic?) to connect I2C devices to each other. The Qwiic system enables fast and solderless connection between popular platforms and various sensors and actuators.   We carry 200mm, 100mm, 50mm, and breadboard friendly Qwiic cables. We also offer 10 pcs strips the SMD connectors.
GateName_1: G$1; SymbolName_1: I2C_STANDARD; DeviceSetName: QWIIC_CONNECTOR; PROD_ID: CONN-14483; LibraryName: SparkFun-Connectors; Package: JST04_1MM_VERT
footprint JST04_1MM_VERT
pins: 1 (power), 2 (power), 3, 4

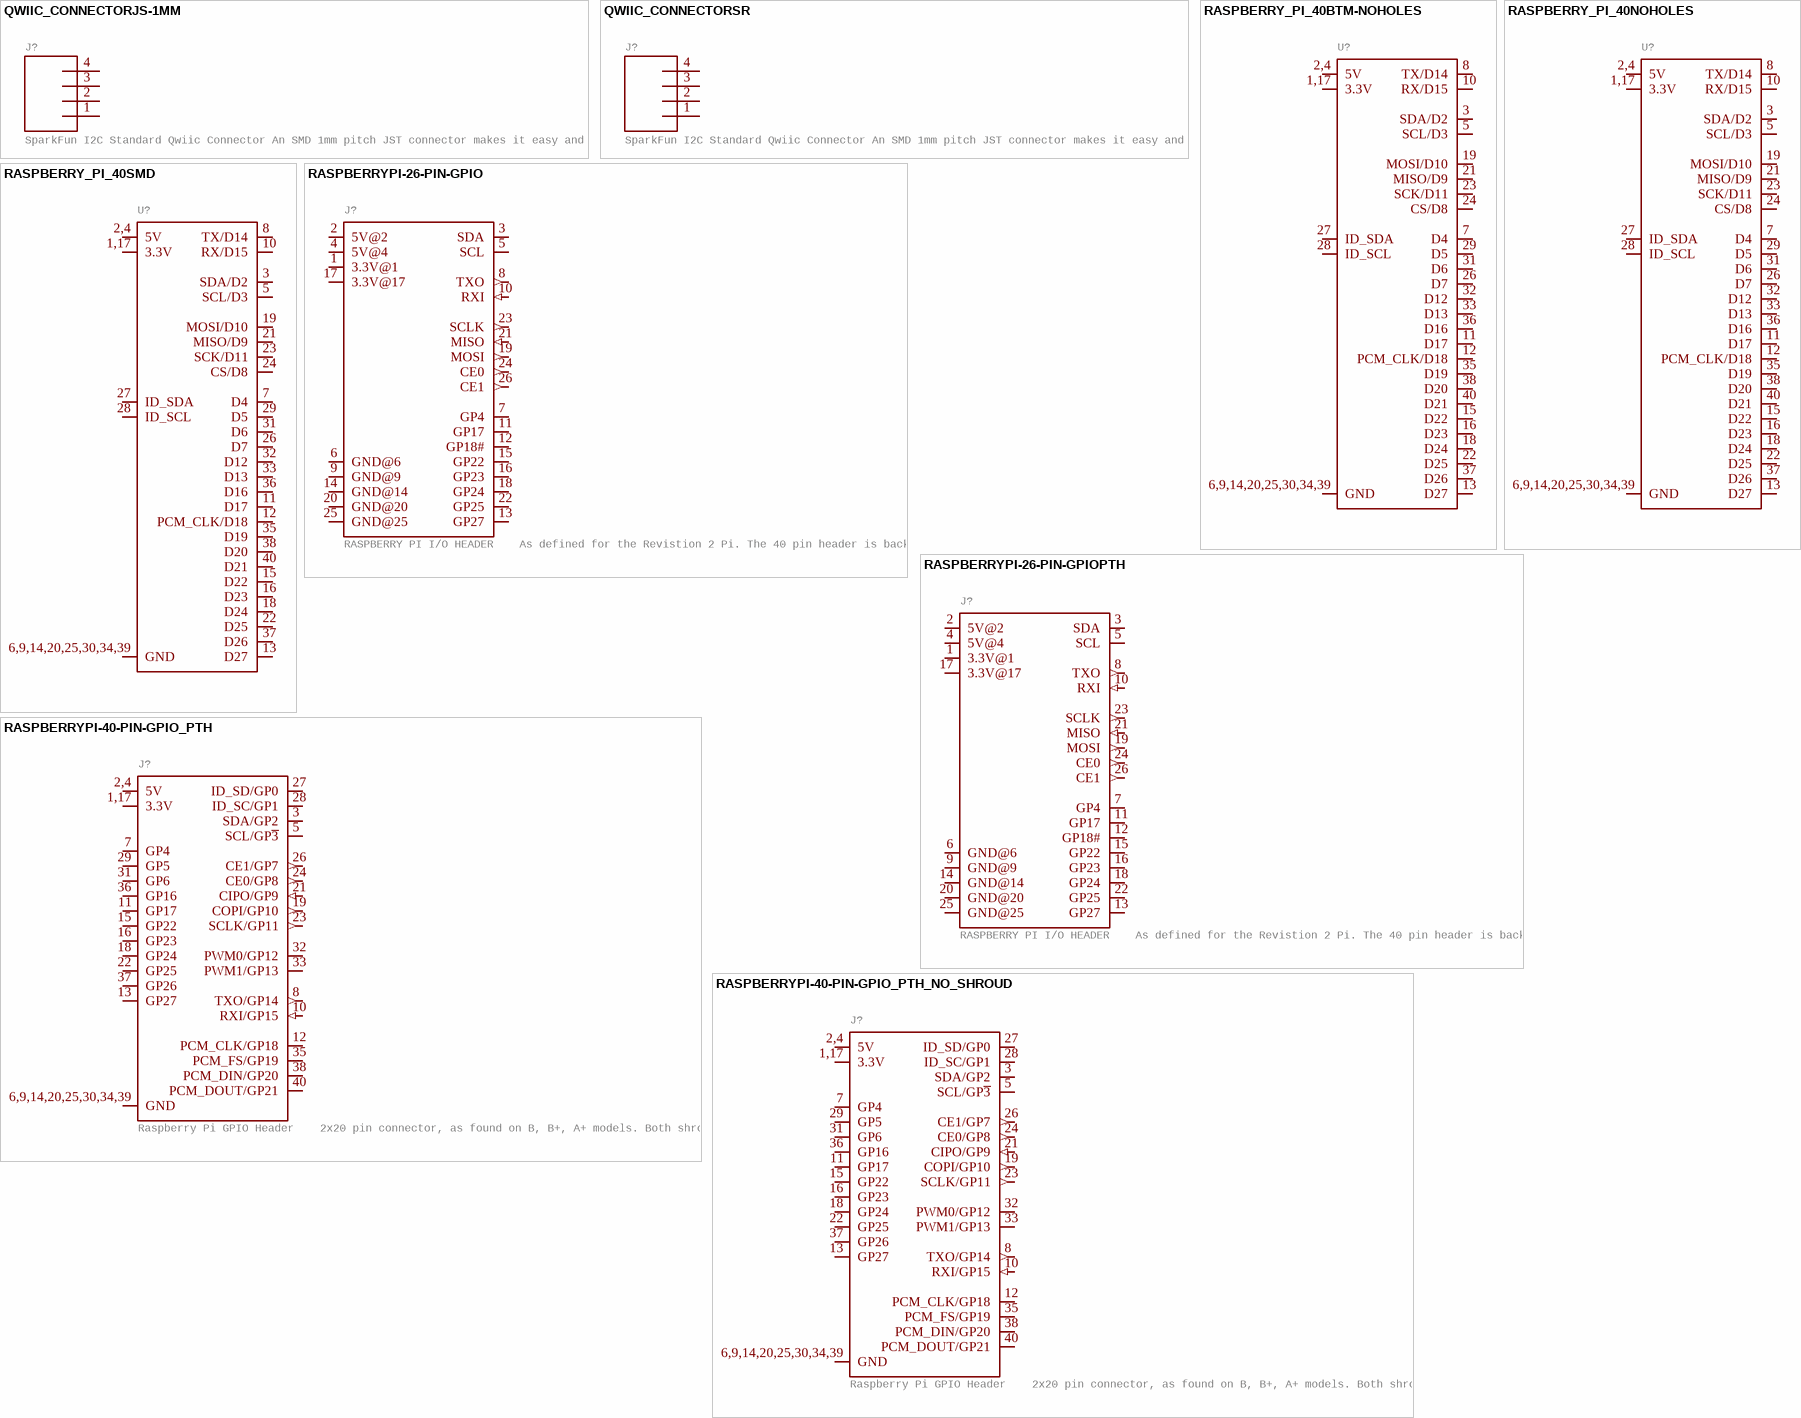
[diagram p16: symbols QWIIC_CONNECTORJS-1MM to RASPBERRYPI-40-PIN-GPIO_PTH_NO_SHROUD]

## QWIIC_CONNECTORJS-1MM
designator J?, comment SparkFun I2C Standard Qwiic Connector An SMD 1mm pitch JST connector makes it easy and quick (get it? Qwiic?) to connect I2C devices to each other. The Qwiic system enables fast and solderless connection between popular platforms and various sensors and actuators.   We carry 200mm, 100mm, 50mm, and breadboard friendly Qwiic cables. We also offer 10 pcs strips the SMD connectors.
GateName_1: G$1; SymbolName_1: I2C_STANDARD; DeviceName: JS-1MM; DeviceSetName: QWIIC_CONNECTOR; PROD_ID: CONN-13694; LibraryName: SparkFun-Connectors; Package: JST04_1MM_RA
footprint JST04_1MM_RA
pins: 1 (power), 2 (power), 3, 4

## QWIIC_CONNECTORSR
designator J?, comment SparkFun I2C Standard Qwiic Connector An SMD 1mm pitch JST connector makes it easy and quick (get it? Qwiic?) to connect I2C devices to each other. The Qwiic system enables fast and solderless connection between popular platforms and various sensors and actuators.   We carry 200mm, 100mm, 50mm, and breadboard friendly Qwiic cables. We also offer 10 pcs strips the SMD connectors.
GateName_1: G$1; SymbolName_1: I2C_STANDARD; DeviceName: SR; DeviceSetName: QWIIC_CONNECTOR; LibraryName: SparkFun-Connectors; Package: JST04_1MM_RA_STRESSRELIEF
footprint JST04_1MM_RA_STRESSRELIEF
pins: 1 (power), 2 (power), 3, 4

## RASPBERRY_PI_40BTM-NOHOLES
designator U?
GateName_1: U1; SymbolName_1: RASPBERRY_PI_HEADER-40-GROUPED; DeviceName: BTM-NOHOLES; DeviceSetName: RASPBERRY_PI_40; PROD_ID: CONN-13790; LibraryName: SparkFun-Connectors; Package: RASPBERRY_PI_SHIELD_BOTTOM_ENTRY_NOHOLES
footprint RASPBERRY_PI_SHIELD_BOTTOM_ENTRY_NOHOLES
pins: 1,17 3.3V (io), 2,4 5V (io), 3 SDA/D2 (io), 5 SCL/D3 (io), 6,9,14,20,25,30,34,39 GND (io), 7 D4 (io), 8 TX/D14 (io), 10 RX/D15 (io), 11 D17 (io), 12 PCM_CLK/D18 (io), 13 D27 (io), 15 D22 (io), 16 D23 (io), 18 D24 (io), 19 MOSI/D10 (io), 21 MISO/D9 (io), 22 D25 (io), 23 SCK/D11 (io), 24 CS/D8 (io), 26 D7 (io), 27 ID_SDA (io), 28 ID_SCL (io), 29 D5 (io), 31 D6 (io), 32 D12 (io), 33 D13 (io), 35 D19 (io), 36 D16 (io), 37 D26 (io), 38 D20 (io), 40 D21 (io)

## RASPBERRY_PI_40NOHOLES
designator U?
GateName_1: U1; SymbolName_1: RASPBERRY_PI_HEADER-40-GROUPED; DeviceName: NOHOLES; DeviceSetName: RASPBERRY_PI_40; LibraryName: SparkFun-Connectors; Package: RASPBERRY_PI_SHIELD_NOHOLES
footprint RASPBERRY_PI_SHIELD_NOHOLES
pins: 1,17 3.3V (io), 2,4 5V (io), 3 SDA/D2 (io), 5 SCL/D3 (io), 6,9,14,20,25,30,34,39 GND (io), 7 D4 (io), 8 TX/D14 (io), 10 RX/D15 (io), 11 D17 (io), 12 PCM_CLK/D18 (io), 13 D27 (io), 15 D22 (io), 16 D23 (io), 18 D24 (io), 19 MOSI/D10 (io), 21 MISO/D9 (io), 22 D25 (io), 23 SCK/D11 (io), 24 CS/D8 (io), 26 D7 (io), 27 ID_SDA (io), 28 ID_SCL (io), 29 D5 (io), 31 D6 (io), 32 D12 (io), 33 D13 (io), 35 D19 (io), 36 D16 (io), 37 D26 (io), 38 D20 (io), 40 D21 (io)

## RASPBERRY_PI_40SMD
designator U?
GateName_1: U1; SymbolName_1: RASPBERRY_PI_HEADER-40-GROUPED; DeviceName: SMD; DeviceSetName: RASPBERRY_PI_40; LibraryName: SparkFun-Connectors; Package: RASPBERRY_PI_SHIELD_HOLES
footprint RASPBERRY_PI_SHIELD_HOLES
pins: 1,17 3.3V (io), 2,4 5V (io), 3 SDA/D2 (io), 5 SCL/D3 (io), 6,9,14,20,25,30,34,39 GND (io), 7 D4 (io), 8 TX/D14 (io), 10 RX/D15 (io), 11 D17 (io), 12 PCM_CLK/D18 (io), 13 D27 (io), 15 D22 (io), 16 D23 (io), 18 D24 (io), 19 MOSI/D10 (io), 21 MISO/D9 (io), 22 D25 (io), 23 SCK/D11 (io), 24 CS/D8 (io), 26 D7 (io), 27 ID_SDA (io), 28 ID_SCL (io), 29 D5 (io), 31 D6 (io), 32 D12 (io), 33 D13 (io), 35 D19 (io), 36 D16 (io), 37 D26 (io), 38 D20 (io), 40 D21 (io)

## RASPBERRYPI-26-PIN-GPIO
designator J?, comment RASPBERRY PI I/O HEADER    As defined for the Revistion 2 Pi. The 40 pin header is backwards compatible with this smaller more compact footprint.
GateName_1: JP1; SymbolName_1: RASPBERRYPI-26-PIN-GPIO; LibraryName: SparkFun-Connectors; DeviceSetName: RASPBERRYPI-26-PIN-GPIO; Package: 2X13
footprint 2X13
pins: 1 3.3V@1 (power), 2 5V@2 (power), 3 SDA (io), 4 5V@4 (power), 5 SCL (io), 6 GND@6 (power), 7 GP4 (io), 8 TXO (out), 9 GND@9 (power), 10 RXI (in), 11 GP17 (io), 12 GP18# (io), 13 GP27 (io), 14 GND@14 (power), 15 GP22 (io), 16 GP23 (io), 17 3.3V@17 (power), 18 GP24 (io), 19 MOSI (out), 20 GND@20 (power), 21 MISO (in), 22 GP25 (io), 23 SCLK (out), 24 CE0 (out), 25 GND@25 (power), 26 CE1 (out)

## RASPBERRYPI-26-PIN-GPIOPTH
designator J?, comment RASPBERRY PI I/O HEADER    As defined for the Revistion 2 Pi. The 40 pin header is backwards compatible with this smaller more compact footprint.
GateName_1: JP1; SymbolName_1: RASPBERRYPI-26-PIN-GPIO; DeviceName: PTH; DIST: sparkfun; DIST_ID: PRT-11490; LibraryName: SparkFun-Connectors; DeviceSetName: RASPBERRYPI-26-PIN-GPIO; Package: 2X13-SHROUDED
footprint 2X13-SHROUDED
pins: 1 3.3V@1 (power), 2 5V@2 (power), 3 SDA (io), 4 5V@4 (power), 5 SCL (io), 6 GND@6 (power), 7 GP4 (io), 8 TXO (out), 9 GND@9 (power), 10 RXI (in), 11 GP17 (io), 12 GP18# (io), 13 GP27 (io), 14 GND@14 (power), 15 GP22 (io), 16 GP23 (io), 17 3.3V@17 (power), 18 GP24 (io), 19 MOSI (out), 20 GND@20 (power), 21 MISO (in), 22 GP25 (io), 23 SCLK (out), 24 CE0 (out), 25 GND@25 (power), 26 CE1 (out)

## RASPBERRYPI-40-PIN-GPIO_PTH
designator J?, comment Raspberry Pi GPIO Header    2x20 pin connector, as found on B, B+, A+ models. Both shrouded PTH and SMT versions available.   SparkFun Products: GPIO Shrouded Header- PTH  SparkFun Pi Wedge (Preassembled)
GateName_1: G$1; SymbolName_1: RASPBERRYPI_40_PIN_GPIO; DeviceName: _PTH; DeviceSetName: RASPBERRYPI-40-PIN-GPIO; PROD_ID: CONN-12263; SF_ID: PRT-13054; LibraryName: SparkFun-Connectors; Package: 2X20_SHROUDED
footprint 2X20_SHROUDED
pins: 1,17 3.3V (power), 2,4 5V (power), 3 SDA/GP2 (io), 5 SCL/GP~{3} (io), 6,9,14,20,25,30,34,39 GND (power), 7 GP4 (io), 8 TXO/GP14 (out), 10 RXI/GP15 (in), 11 GP17 (io), 12 PCM_CLK/GP18 (io), 13 GP27 (io), 15 GP22 (io), 16 GP23 (io), 18 GP24 (io), 19 COPI/GP10 (out), 21 CIPO/GP9 (in), 22 GP25 (io), 23 SCLK/GP11 (out), 24 CE0/GP8 (out), 26 CE1/GP7 (out), 27 ID_SD/GP0 (io), 28 ID_SC/GP1 (io), 29 GP5 (io), 31 GP6 (io), 32 PWM0/GP12 (io), 33 PWM1/GP13 (io), 35 PCM_FS/GP19 (io), 36 GP16 (io), 37 GP26 (io), 38 PCM_DIN/GP20 (io), 40 PCM_DOUT/GP21 (io)

## RASPBERRYPI-40-PIN-GPIO_PTH_NO_SHROUD
designator J?, comment Raspberry Pi GPIO Header    2x20 pin connector, as found on B, B+, A+ models. Both shrouded PTH and SMT versions available.   SparkFun Products: GPIO Shrouded Header- PTH  SparkFun Pi Wedge (Preassembled)
GateName_1: G$1; SymbolName_1: RASPBERRYPI_40_PIN_GPIO; DeviceName: _PTH_NO_SHROUD; DeviceSetName: RASPBERRYPI-40-PIN-GPIO; LibraryName: SparkFun-Connectors; Package: 2X20
footprint 2X20
pins: 1,17 3.3V (power), 2,4 5V (power), 3 SDA/GP2 (io), 5 SCL/GP~{3} (io), 6,9,14,20,25,30,34,39 GND (power), 7 GP4 (io), 8 TXO/GP14 (out), 10 RXI/GP15 (in), 11 GP17 (io), 12 PCM_CLK/GP18 (io), 13 GP27 (io), 15 GP22 (io), 16 GP23 (io), 18 GP24 (io), 19 COPI/GP10 (out), 21 CIPO/GP9 (in), 22 GP25 (io), 23 SCLK/GP11 (out), 24 CE0/GP8 (out), 26 CE1/GP7 (out), 27 ID_SD/GP0 (io), 28 ID_SC/GP1 (io), 29 GP5 (io), 31 GP6 (io), 32 PWM0/GP12 (io), 33 PWM1/GP13 (io), 35 PCM_FS/GP19 (io), 36 GP16 (io), 37 GP26 (io), 38 PCM_DIN/GP20 (io), 40 PCM_DOUT/GP21 (io)

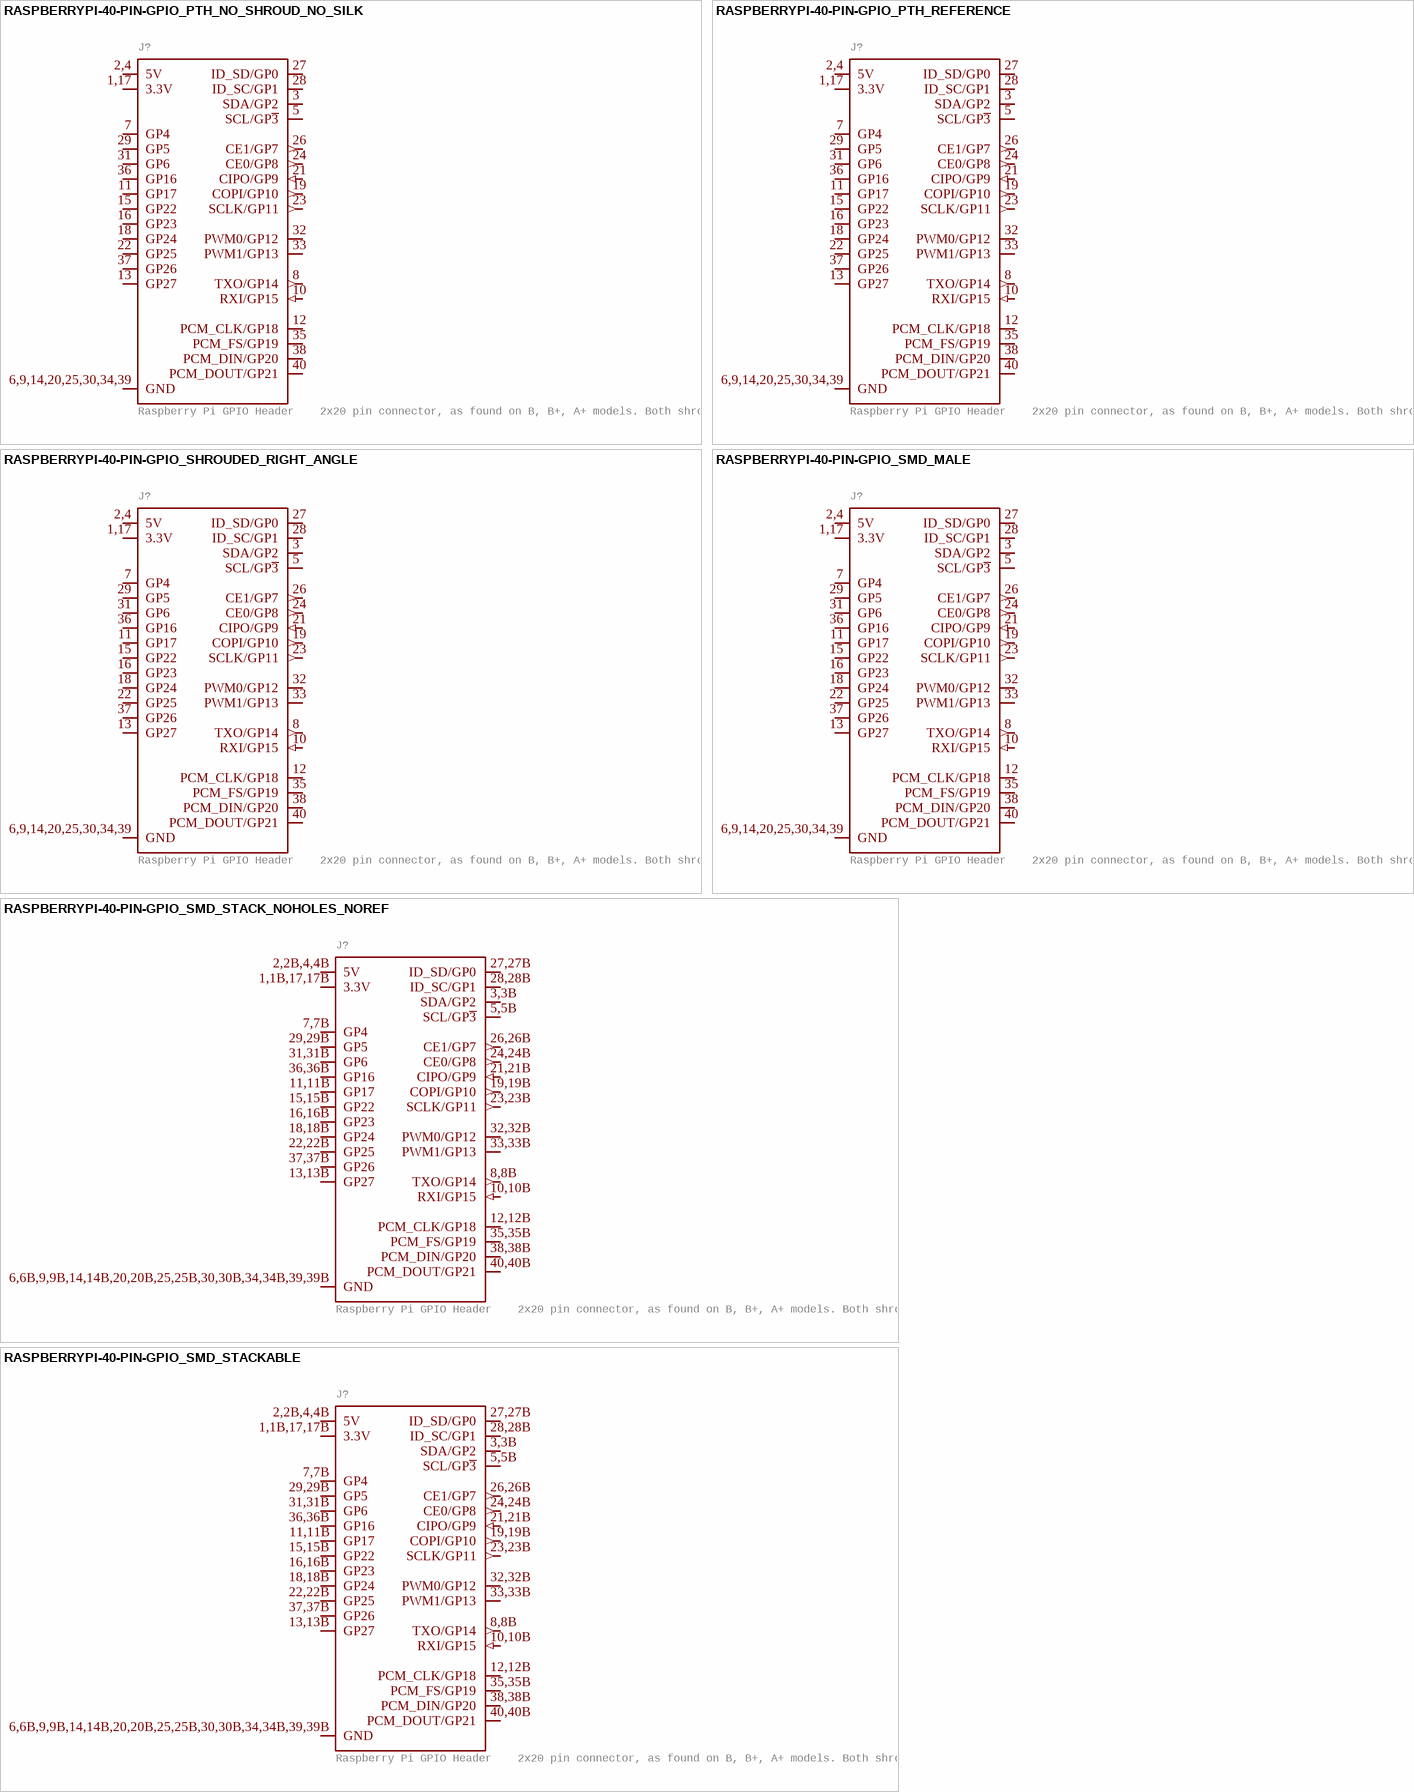
[diagram p17: symbols RASPBERRYPI-40-PIN-GPIO_PTH_NO_SHROUD_NO_SILK to RASPBERRYPI-40-PIN-GPIO_SMD_STACKABLE]

## RASPBERRYPI-40-PIN-GPIO_PTH_NO_SHROUD_NO_SILK
designator J?, comment Raspberry Pi GPIO Header    2x20 pin connector, as found on B, B+, A+ models. Both shrouded PTH and SMT versions available.   SparkFun Products: GPIO Shrouded Header- PTH  SparkFun Pi Wedge (Preassembled)
GateName_1: G$1; SymbolName_1: RASPBERRYPI_40_PIN_GPIO; DeviceName: _PTH_NO_SHROUD_NO_SILK; DeviceSetName: RASPBERRYPI-40-PIN-GPIO; LibraryName: SparkFun-Connectors; Package: 2X20_NOSILK
footprint 2X20_NOSILK
pins: 1,17 3.3V (power), 2,4 5V (power), 3 SDA/GP2 (io), 5 SCL/GP~{3} (io), 6,9,14,20,25,30,34,39 GND (power), 7 GP4 (io), 8 TXO/GP14 (out), 10 RXI/GP15 (in), 11 GP17 (io), 12 PCM_CLK/GP18 (io), 13 GP27 (io), 15 GP22 (io), 16 GP23 (io), 18 GP24 (io), 19 COPI/GP10 (out), 21 CIPO/GP9 (in), 22 GP25 (io), 23 SCLK/GP11 (out), 24 CE0/GP8 (out), 26 CE1/GP7 (out), 27 ID_SD/GP0 (io), 28 ID_SC/GP1 (io), 29 GP5 (io), 31 GP6 (io), 32 PWM0/GP12 (io), 33 PWM1/GP13 (io), 35 PCM_FS/GP19 (io), 36 GP16 (io), 37 GP26 (io), 38 PCM_DIN/GP20 (io), 40 PCM_DOUT/GP21 (io)

## RASPBERRYPI-40-PIN-GPIO_PTH_REFERENCE
designator J?, comment Raspberry Pi GPIO Header    2x20 pin connector, as found on B, B+, A+ models. Both shrouded PTH and SMT versions available.   SparkFun Products: GPIO Shrouded Header- PTH  SparkFun Pi Wedge (Preassembled)
GateName_1: G$1; SymbolName_1: RASPBERRYPI_40_PIN_GPIO; DeviceName: _PTH_REFERENCE; DeviceSetName: RASPBERRYPI-40-PIN-GPIO; LibraryName: SparkFun-Connectors; Package: RASPBERRY_PI_HAT_40_PIN_PTH_WITH_REFERNCE
footprint RASPBERRY_PI_HAT_40_PIN_PTH_WITH_REFERNCE
pins: 1,17 3.3V (power), 2,4 5V (power), 3 SDA/GP2 (io), 5 SCL/GP~{3} (io), 6,9,14,20,25,30,34,39 GND (power), 7 GP4 (io), 8 TXO/GP14 (out), 10 RXI/GP15 (in), 11 GP17 (io), 12 PCM_CLK/GP18 (io), 13 GP27 (io), 15 GP22 (io), 16 GP23 (io), 18 GP24 (io), 19 COPI/GP10 (out), 21 CIPO/GP9 (in), 22 GP25 (io), 23 SCLK/GP11 (out), 24 CE0/GP8 (out), 26 CE1/GP7 (out), 27 ID_SD/GP0 (io), 28 ID_SC/GP1 (io), 29 GP5 (io), 31 GP6 (io), 32 PWM0/GP12 (io), 33 PWM1/GP13 (io), 35 PCM_FS/GP19 (io), 36 GP16 (io), 37 GP26 (io), 38 PCM_DIN/GP20 (io), 40 PCM_DOUT/GP21 (io)

## RASPBERRYPI-40-PIN-GPIO_SHROUDED_RIGHT_ANGLE
designator J?, comment Raspberry Pi GPIO Header    2x20 pin connector, as found on B, B+, A+ models. Both shrouded PTH and SMT versions available.   SparkFun Products: GPIO Shrouded Header- PTH  SparkFun Pi Wedge (Preassembled)
GateName_1: G$1; SymbolName_1: RASPBERRYPI_40_PIN_GPIO; DeviceName: _SHROUDED_RIGHT_ANGLE; DeviceSetName: RASPBERRYPI-40-PIN-GPIO; PROD_ID: CONN-15471; LibraryName: SparkFun-Connectors; Package: 2X20_RIGHT_ANGLE
footprint 2X20_RIGHT_ANGLE
pins: 1,17 3.3V (power), 2,4 5V (power), 3 SDA/GP2 (io), 5 SCL/GP~{3} (io), 6,9,14,20,25,30,34,39 GND (power), 7 GP4 (io), 8 TXO/GP14 (out), 10 RXI/GP15 (in), 11 GP17 (io), 12 PCM_CLK/GP18 (io), 13 GP27 (io), 15 GP22 (io), 16 GP23 (io), 18 GP24 (io), 19 COPI/GP10 (out), 21 CIPO/GP9 (in), 22 GP25 (io), 23 SCLK/GP11 (out), 24 CE0/GP8 (out), 26 CE1/GP7 (out), 27 ID_SD/GP0 (io), 28 ID_SC/GP1 (io), 29 GP5 (io), 31 GP6 (io), 32 PWM0/GP12 (io), 33 PWM1/GP13 (io), 35 PCM_FS/GP19 (io), 36 GP16 (io), 37 GP26 (io), 38 PCM_DIN/GP20 (io), 40 PCM_DOUT/GP21 (io)

## RASPBERRYPI-40-PIN-GPIO_SMD_MALE
designator J?, comment Raspberry Pi GPIO Header    2x20 pin connector, as found on B, B+, A+ models. Both shrouded PTH and SMT versions available.   SparkFun Products: GPIO Shrouded Header- PTH  SparkFun Pi Wedge (Preassembled)
GateName_1: G$1; SymbolName_1: RASPBERRYPI_40_PIN_GPIO; DeviceName: _SMD_MALE; DeviceSetName: RASPBERRYPI-40-PIN-GPIO; PROD_ID: CONN-14915; LibraryName: SparkFun-Connectors; Package: RASPBERRY_PI_HAT_40_PIN_SMD_MALE
footprint RASPBERRY_PI_HAT_40_PIN_SMD_MALE
pins: 1,17 3.3V (power), 2,4 5V (power), 3 SDA/GP2 (io), 5 SCL/GP~{3} (io), 6,9,14,20,25,30,34,39 GND (power), 7 GP4 (io), 8 TXO/GP14 (out), 10 RXI/GP15 (in), 11 GP17 (io), 12 PCM_CLK/GP18 (io), 13 GP27 (io), 15 GP22 (io), 16 GP23 (io), 18 GP24 (io), 19 COPI/GP10 (out), 21 CIPO/GP9 (in), 22 GP25 (io), 23 SCLK/GP11 (out), 24 CE0/GP8 (out), 26 CE1/GP7 (out), 27 ID_SD/GP0 (io), 28 ID_SC/GP1 (io), 29 GP5 (io), 31 GP6 (io), 32 PWM0/GP12 (io), 33 PWM1/GP13 (io), 35 PCM_FS/GP19 (io), 36 GP16 (io), 37 GP26 (io), 38 PCM_DIN/GP20 (io), 40 PCM_DOUT/GP21 (io)

## RASPBERRYPI-40-PIN-GPIO_SMD_STACK_NOHOLES_NOREF
designator J?, comment Raspberry Pi GPIO Header    2x20 pin connector, as found on B, B+, A+ models. Both shrouded PTH and SMT versions available.   SparkFun Products: GPIO Shrouded Header- PTH  SparkFun Pi Wedge (Preassembled)
GateName_1: G$1; SymbolName_1: RASPBERRYPI_40_PIN_GPIO; DeviceName: _SMD_STACK_NOHOLES_NOREF; DeviceSetName: RASPBERRYPI-40-PIN-GPIO; LibraryName: SparkFun-Connectors; Package: RASPBERRY_PI_HAT_40_PIN_SMD_STACKABLE_NOHOLES_NOREF
footprint RASPBERRY_PI_HAT_40_PIN_SMD_STACKABLE_NOHOLES_NOREF
pins: 1,1B,17,17B 3.3V (power), 2,2B,4,4B 5V (power), 3,3B SDA/GP2 (io), 5,5B SCL/GP~{3} (io), 6,6B,9,9B,14,14B,20,20B,25,25B,30,30B,34,34B,39,39B GND (power), 7,7B GP4 (io), 8,8B TXO/GP14 (out), 10,10B RXI/GP15 (in), 11,11B GP17 (io), 12,12B PCM_CLK/GP18 (io), 13,13B GP27 (io), 15,15B GP22 (io), 16,16B GP23 (io), 18,18B GP24 (io), 19,19B COPI/GP10 (out), 21,21B CIPO/GP9 (in), 22,22B GP25 (io), 23,23B SCLK/GP11 (out), 24,24B CE0/GP8 (out), 26,26B CE1/GP7 (out), 27,27B ID_SD/GP0 (io), 28,28B ID_SC/GP1 (io), 29,29B GP5 (io), 31,31B GP6 (io), 32,32B PWM0/GP12 (io), 33,33B PWM1/GP13 (io), 35,35B PCM_FS/GP19 (io), 36,36B GP16 (io), 37,37B GP26 (io), 38,38B PCM_DIN/GP20 (io), 40,40B PCM_DOUT/GP21 (io)

## RASPBERRYPI-40-PIN-GPIO_SMD_STACKABLE
designator J?, comment Raspberry Pi GPIO Header    2x20 pin connector, as found on B, B+, A+ models. Both shrouded PTH and SMT versions available.   SparkFun Products: GPIO Shrouded Header- PTH  SparkFun Pi Wedge (Preassembled)
GateName_1: G$1; SymbolName_1: RASPBERRYPI_40_PIN_GPIO; DeviceName: _SMD_STACKABLE; DeviceSetName: RASPBERRYPI-40-PIN-GPIO; PROD_ID: CONN-14914; PROD_ID_2: CONN-14915; LibraryName: SparkFun-Connectors; Package: RASPBERRY_PI_HAT_40_PIN_SMD_STACKABLE
footprint RASPBERRY_PI_HAT_40_PIN_SMD_STACKABLE
pins: 1,1B,17,17B 3.3V (power), 2,2B,4,4B 5V (power), 3,3B SDA/GP2 (io), 5,5B SCL/GP~{3} (io), 6,6B,9,9B,14,14B,20,20B,25,25B,30,30B,34,34B,39,39B GND (power), 7,7B GP4 (io), 8,8B TXO/GP14 (out), 10,10B RXI/GP15 (in), 11,11B GP17 (io), 12,12B PCM_CLK/GP18 (io), 13,13B GP27 (io), 15,15B GP22 (io), 16,16B GP23 (io), 18,18B GP24 (io), 19,19B COPI/GP10 (out), 21,21B CIPO/GP9 (in), 22,22B GP25 (io), 23,23B SCLK/GP11 (out), 24,24B CE0/GP8 (out), 26,26B CE1/GP7 (out), 27,27B ID_SD/GP0 (io), 28,28B ID_SC/GP1 (io), 29,29B GP5 (io), 31,31B GP6 (io), 32,32B PWM0/GP12 (io), 33,33B PWM1/GP13 (io), 35,35B PCM_FS/GP19 (io), 36,36B GP16 (io), 37,37B GP26 (io), 38,38B PCM_DIN/GP20 (io), 40,40B PCM_DOUT/GP21 (io)

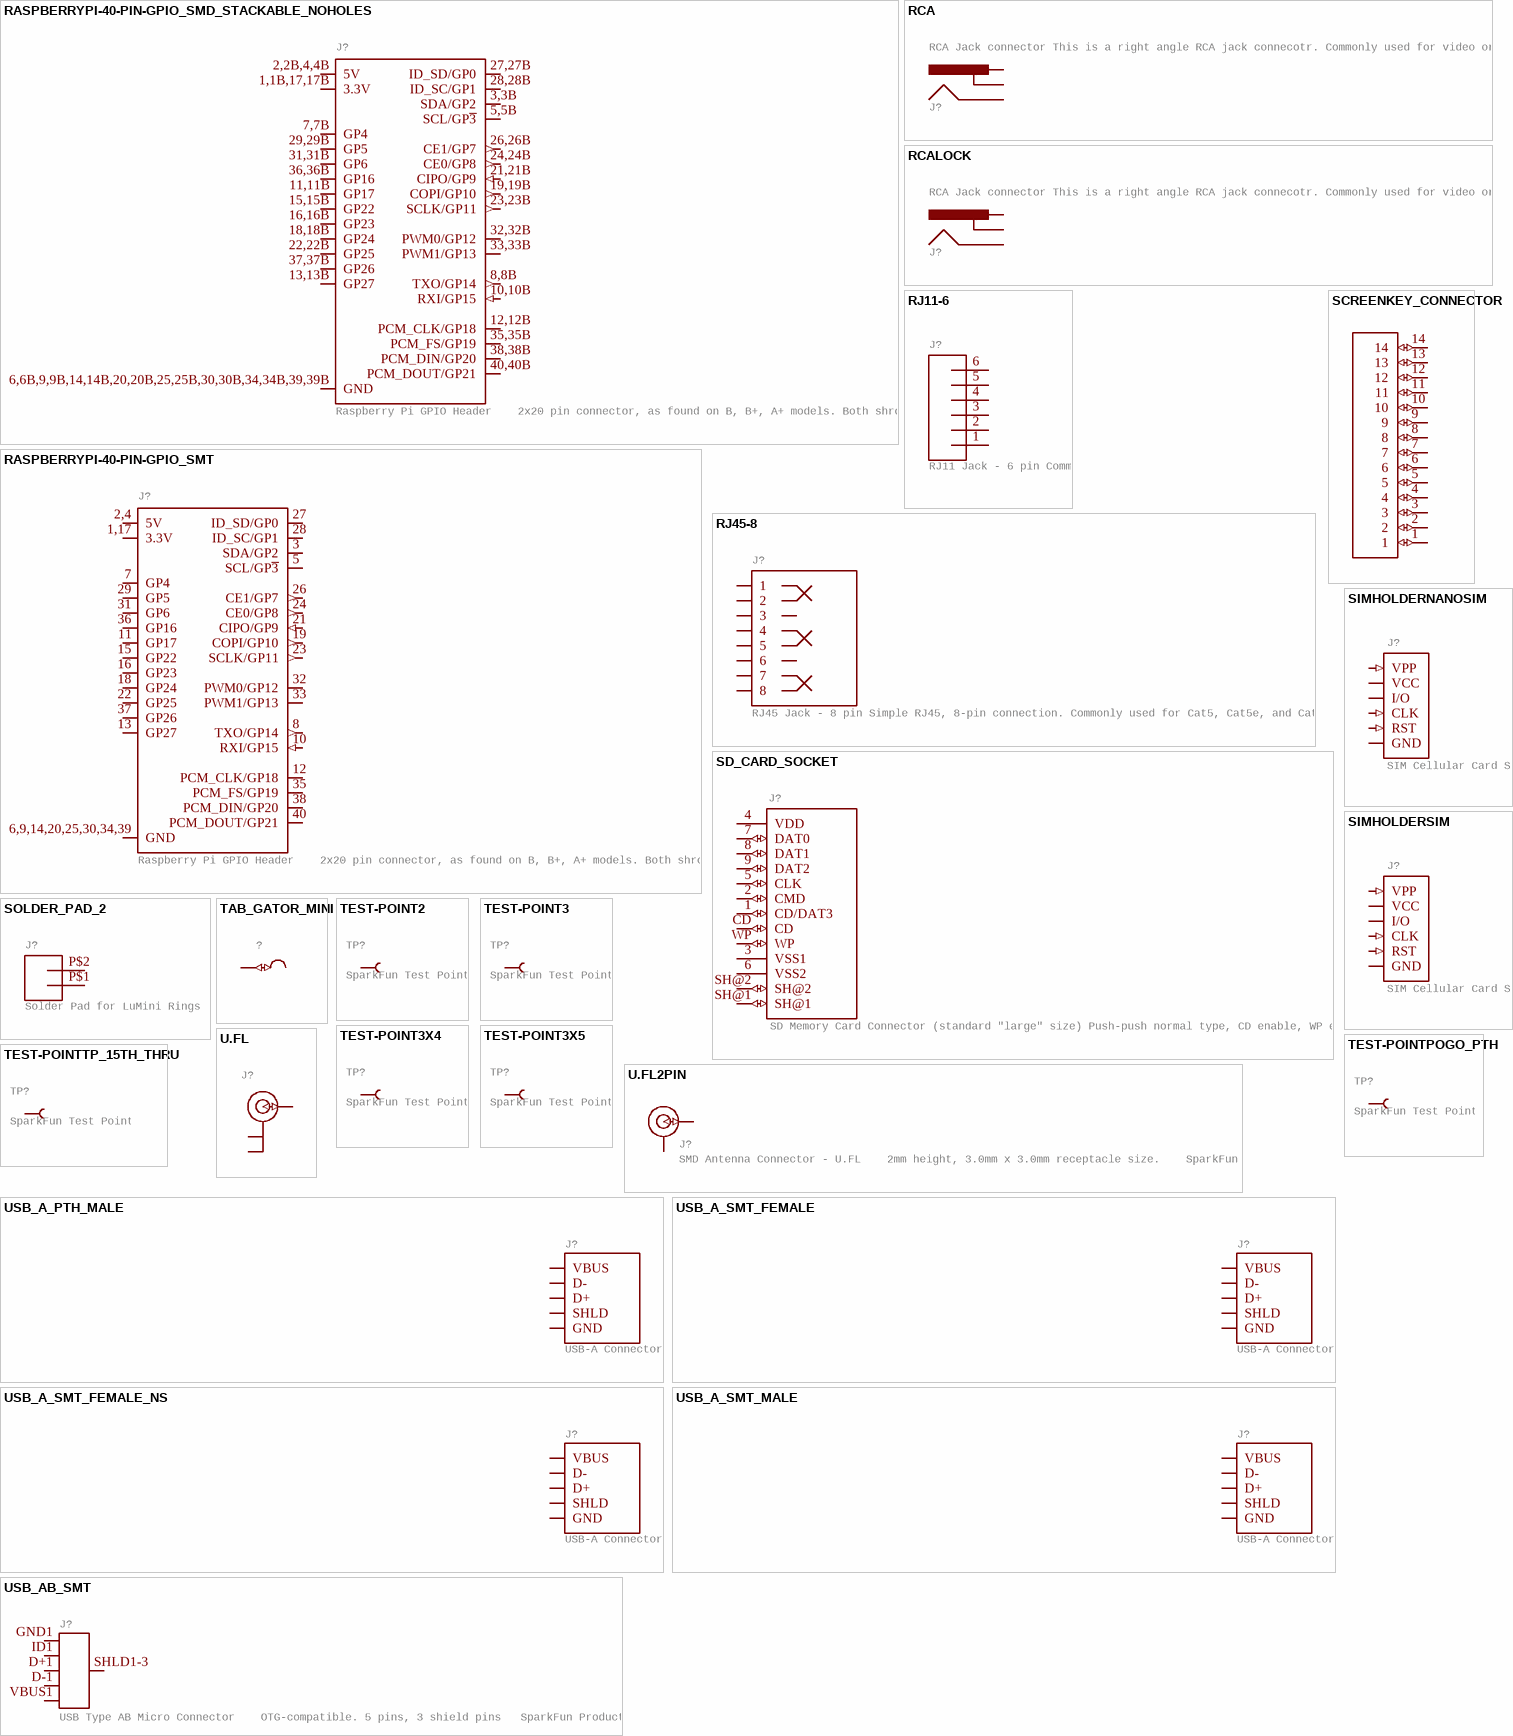
[diagram p18: symbols RASPBERRYPI-40-PIN-GPIO_SMD_STACKABLE_NOHOLES to USB_AB_SMT]

## RASPBERRYPI-40-PIN-GPIO_SMD_STACKABLE_NOHOLES
designator J?, comment Raspberry Pi GPIO Header    2x20 pin connector, as found on B, B+, A+ models. Both shrouded PTH and SMT versions available.   SparkFun Products: GPIO Shrouded Header- PTH  SparkFun Pi Wedge (Preassembled)
GateName_1: G$1; SymbolName_1: RASPBERRYPI_40_PIN_GPIO; DeviceName: _SMD_STACKABLE_NOHOLES; DeviceSetName: RASPBERRYPI-40-PIN-GPIO; PROD_ID: CONN-14914; PROD_ID_2: CONN-14915; LibraryName: SparkFun-Connectors; Package: RASPBERRY_PI_HAT_40_PIN_SMD_STACKABLE_NOHOLES
footprint RASPBERRY_PI_HAT_40_PIN_SMD_STACKABLE_NOHOLES
pins: 1,1B,17,17B 3.3V (power), 2,2B,4,4B 5V (power), 3,3B SDA/GP2 (io), 5,5B SCL/GP~{3} (io), 6,6B,9,9B,14,14B,20,20B,25,25B,30,30B,34,34B,39,39B GND (power), 7,7B GP4 (io), 8,8B TXO/GP14 (out), 10,10B RXI/GP15 (in), 11,11B GP17 (io), 12,12B PCM_CLK/GP18 (io), 13,13B GP27 (io), 15,15B GP22 (io), 16,16B GP23 (io), 18,18B GP24 (io), 19,19B COPI/GP10 (out), 21,21B CIPO/GP9 (in), 22,22B GP25 (io), 23,23B SCLK/GP11 (out), 24,24B CE0/GP8 (out), 26,26B CE1/GP7 (out), 27,27B ID_SD/GP0 (io), 28,28B ID_SC/GP1 (io), 29,29B GP5 (io), 31,31B GP6 (io), 32,32B PWM0/GP12 (io), 33,33B PWM1/GP13 (io), 35,35B PCM_FS/GP19 (io), 36,36B GP16 (io), 37,37B GP26 (io), 38,38B PCM_DIN/GP20 (io), 40,40B PCM_DOUT/GP21 (io)

## RASPBERRYPI-40-PIN-GPIO_SMT
designator J?, comment Raspberry Pi GPIO Header    2x20 pin connector, as found on B, B+, A+ models. Both shrouded PTH and SMT versions available.   SparkFun Products: GPIO Shrouded Header- PTH  SparkFun Pi Wedge (Preassembled)
GateName_1: G$1; SymbolName_1: RASPBERRYPI_40_PIN_GPIO; DeviceName: _SMT; DeviceSetName: RASPBERRYPI-40-PIN-GPIO; PROD_ID: CONN-13143; LibraryName: SparkFun-Connectors; Package: 2X20_SHROUDED_SMT
footprint 2X20_SHROUDED_SMT
pins: 1,17 3.3V (power), 2,4 5V (power), 3 SDA/GP2 (io), 5 SCL/GP~{3} (io), 6,9,14,20,25,30,34,39 GND (power), 7 GP4 (io), 8 TXO/GP14 (out), 10 RXI/GP15 (in), 11 GP17 (io), 12 PCM_CLK/GP18 (io), 13 GP27 (io), 15 GP22 (io), 16 GP23 (io), 18 GP24 (io), 19 COPI/GP10 (out), 21 CIPO/GP9 (in), 22 GP25 (io), 23 SCLK/GP11 (out), 24 CE0/GP8 (out), 26 CE1/GP7 (out), 27 ID_SD/GP0 (io), 28 ID_SC/GP1 (io), 29 GP5 (io), 31 GP6 (io), 32 PWM0/GP12 (io), 33 PWM1/GP13 (io), 35 PCM_FS/GP19 (io), 36 GP16 (io), 37 GP26 (io), 38 PCM_DIN/GP20 (io), 40 PCM_DOUT/GP21 (io)

## RCA
designator J?, comment RCA Jack connector This is a right angle RCA jack connecotr. Commonly used for video or audio.    Here is the connector we sell at SparkFun: RCA Jack (PRT-08631)  Datasheet      It is not used on any active designs, however it was used on a couple retired products: RCA Jack Breakout [RETIRED] (PRT-08826)  SparkFun On Screen Display Breakout - MAX7456 [RETIRED] (BOB-09168)       You may also be interested in a cable: RCA Video Cable - 6' (CAB-11573)
GateName_1: G$1; PROD_ID: CONN-09081; SymbolName_1: RCA; LibraryName: SparkFun-Connectors; DeviceSetName: RCA; Package: RCA; SF_ID: PRT-08631
footprint RCA
pins: PIN (io), SHELL (io), SWITCH (io)

## RCALOCK
designator J?, comment RCA Jack connector This is a right angle RCA jack connecotr. Commonly used for video or audio.    Here is the connector we sell at SparkFun: RCA Jack (PRT-08631)  Datasheet      It is not used on any active designs, however it was used on a couple retired products: RCA Jack Breakout [RETIRED] (PRT-08826)  SparkFun On Screen Display Breakout - MAX7456 [RETIRED] (BOB-09168)       You may also be interested in a cable: RCA Video Cable - 6' (CAB-11573)
GateName_1: G$1; DeviceName: LOCK; SymbolName_1: RCA; LibraryName: SparkFun-Connectors; DeviceSetName: RCA; Package: RCA_LOCK
footprint RCA_LOCK
pins: PIN (io), SHELL (io), SWITCH (io)

## RJ11-6
designator J?, comment RJ11 Jack - 6 pin Commonly found on CAT3 devices and some Microchip programmers.    Here is the connector we sell at SparkFun: RJ11 6-Pin Connector (PRT-00132)  Datasheet      It is used on this SparkFun product: SparkFun Weather Shield (DEV-12081)  Weather Meters (SEN-08942)
GateName_1: G$1; SymbolName_1: CONN_06; DeviceSetName: RJ11-6; PROD_ID: CONN-08590; LibraryName: SparkFun-Connectors; Package: RJ11-6; SF_ID: PRT-00132
footprint RJ11-6
pins: 1, 2, 3, 4, 5, 6

## RJ45-8
designator J?, comment RJ45 Jack - 8 pin Simple RJ45, 8-pin connection. Commonly used for Cat5, Cat5e, and Cat6 Ethernet cables.    Here is the connector we sell at SparkFun: RJ45 8-Pin Connector (PRT-00643)  Datasheet      It is used on this SparkFun product: SparkFun RJ45 Breakout (BOB-00716)        Note, you may also be interested in the "MAGJACK" version of this. It is basically a RJ45 connector, but also has some status LEDs built into the connector housing. You can check that out in this library at the device named "MAGJACK.dev" and see these products online: RJ45 Ethernet MagJack-Compatible (PRT-08534)  SparkFun RJ45 MagJack Breakout (BOB-13021)
GateName_1: JP1; SymbolName_1: RJ45-8; PROD_ID: CONN-08506; LibraryName: SparkFun-Connectors; DeviceSetName: RJ45-8; Package: RJ45-8; SF_ID: PRT-00643
footprint RJ45-8
pins: 1 (io), 2 (io), 3 (io), 4 (io), 5 (io), 6 (io), 7 (io), 8 (io)

## SCREENKEY_CONNECTOR
designator J?, comment Connector for the ScreenKey This is a tiny, locking 14-pin FPC/FFC connector that mates with the TFT ScreenKeys and their displays. These connectors require a really minimal amount of force to close, which is great for the delicate wires theyâ€™re designed for.   Unfortunately, we no longer sell the ScreenKey TFT128 or the  TFT128 Display, however we do still sell the connector.    Here is the connector we sell at SparkFun: ScreenKey Mating Connector (PRT-09586)  Datasheet (FH12-14S-0.5SH)  (value not drawn)
GateName_1: G$1; DeviceSetName: SCREENKEY_CONNECTOR; PROD_ID: CONN-09581; SymbolName_1: SCREENKEYMATINGCONNECTOR; LibraryName: SparkFun-Connectors; Package: SCREENKEY_MATING_CONNECTOR; SF_ID: PRT-09586
footprint SCREENKEY_MATING_CONNECTOR
pins: 1 (io), 2 (io), 3 (io), 4 (io), 5 (io), 6 (io), 7 (io), 8 (io), 9 (io), 10 (io), 11 (io), 12 (io), 13 (io), 14 (io)